# Altium schematic symbol library MCU_Cypress.SchLib: 36 symbols
Pins are listed as number, name and electrical type; pins without a type are passive.

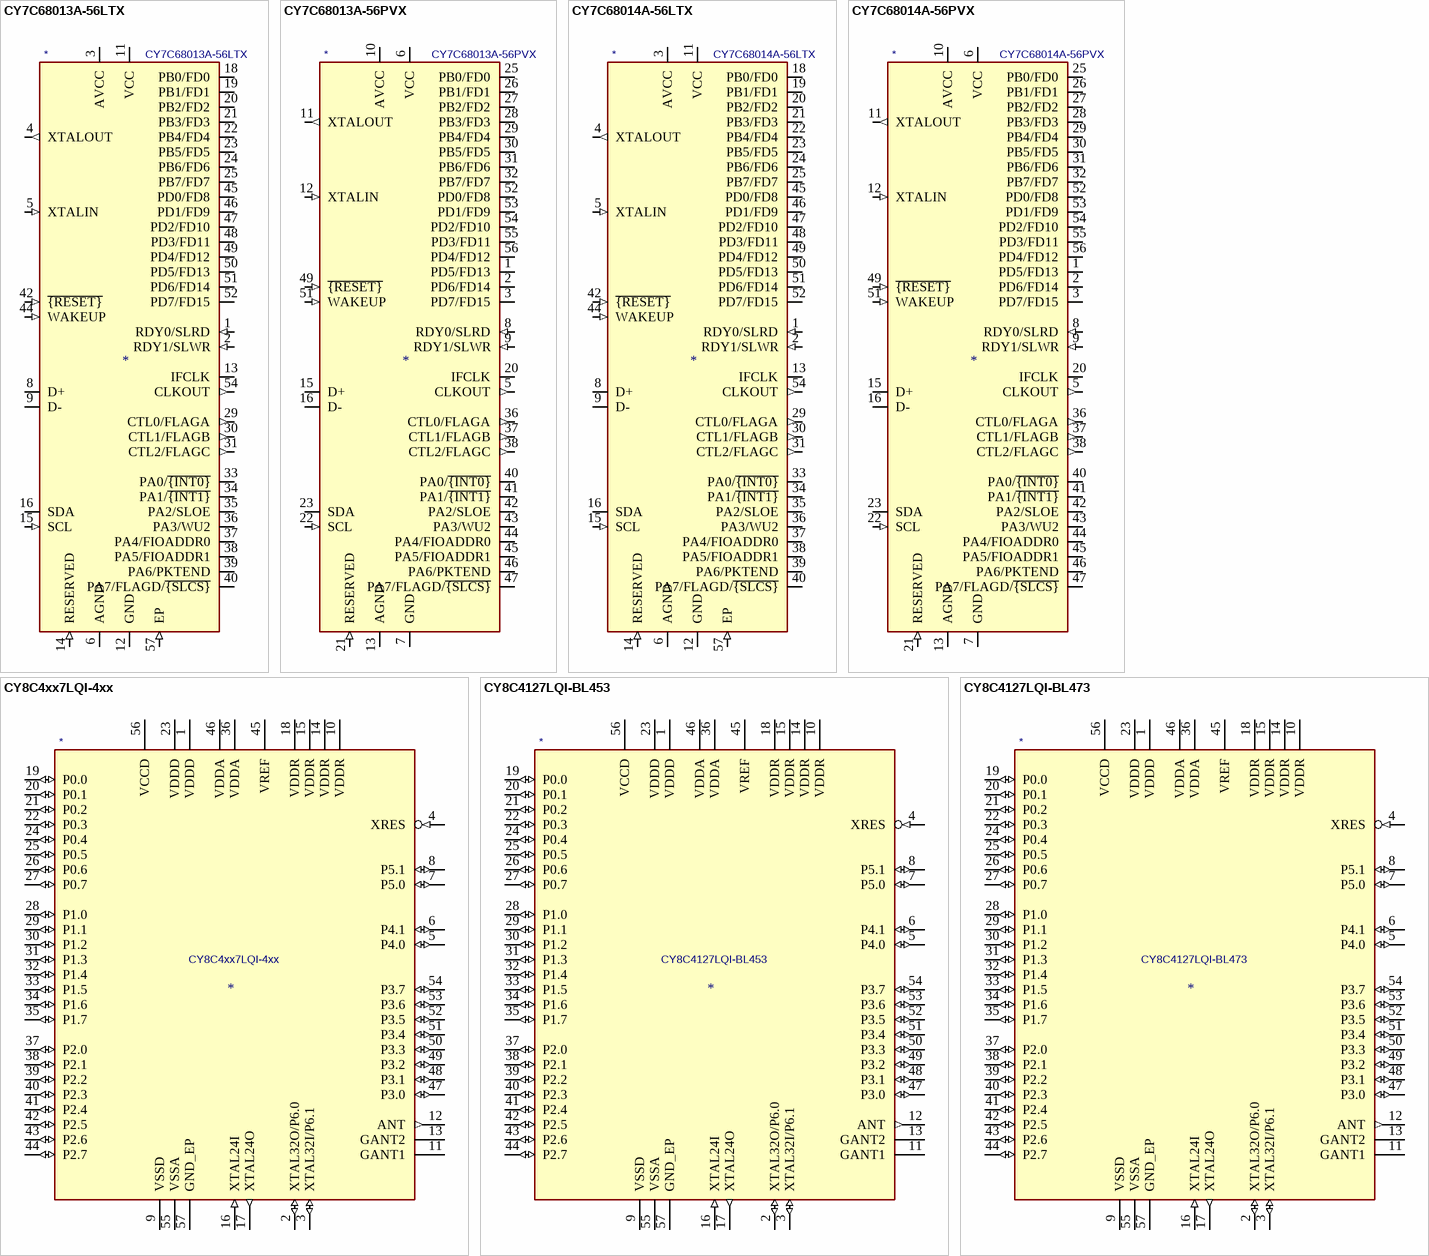
[diagram p0: symbols CY7C68013A-56LTX to CY8C4127LQI-BL473]

## CY7C68013A-56LTX
designator *  value CY7C68013A-56LTX
ki_keywords: FX2LP 8-bit USB MCU; ki_description: CYPRESS FX2LP USB Microcontroller, 48MHz 8051, 16KB RAM, USB 2.0, I2C, QFN-56; ki_fp_filters: QFN*1EP*8x8mm*P0.5mm*; Footprint: Package_DFN_QFN:QFN-56-1EP_8x8mm_P0.5mm_EP4.5x5.2mm_ThermalVias_TopTented; Supplier: http://www.cypress.com/file/138911/download
footprint QFN-56-1EP_8x8mm_P0.5mm_EP4.5x5.2mm_ThermalVias_TopTented
pins: 1 RDY0/SLRD (in), 2 RDY1/SLWR (in), 3 AVCC (power), 4 XTALOUT (out), 5 XTALIN (in), 6 AGND (power), 7 AVCC hidden, 8 D+ (io), 9 D- (io), 10 AGND hidden, 11 VCC (power), 12 GND (power), 13 IFCLK (io), 14 RESERVED (in), 15 SCL (in), 16 SDA (io), 17 VCC hidden, 18 PB0/FD0 (io), 19 PB1/FD1 (io), 20 PB2/FD2 (io), 21 PB3/FD3 (io), 22 PB4/FD4 (io), 23 PB5/FD5 (io), 24 PB6/FD6 (io), 25 PB7/FD7 (io), 26 GND hidden, 27 VCC hidden, 28 GND hidden, 29 CTL0/FLAGA (out), 30 CTL1/FLAGB (out), 31 CTL2/FLAGC (out), 32 VCC hidden, 33 PA0/~{{INT0}} (io), 34 PA1/~{{INT1}} (io), 35 PA2/SLOE (io), 36 PA3/WU2 (io), 37 PA4/FIOADDR0 (io), 38 PA5/FIOADDR1 (io), 39 PA6/PKTEND (io), 40 PA7/FLAGD/~{{SLCS}} (io), 41 GND hidden, 42 ~{{RESET}} (in), 43 VCC hidden, 44 WAKEUP (in), 45 PD0/FD8 (io), 46 PD1/FD9 (io), 47 PD2/FD10 (io), 48 PD3/FD11 (io), 49 PD4/FD12 (io), 50 PD5/FD13 (io), 51 PD6/FD14 (io), 52 PD7/FD15 (io), 53 GND hidden, 54 CLKOUT (out), 55 VCC hidden, 56 GND hidden, 57 EP (in)

## CY7C68013A-56PVX
designator *  value CY7C68013A-56PVX
ki_keywords: FX2LP 8-bit USB MCU; ki_description: CYPRESS FX2LP USB Microcontroller, 48MHz 8051, 16KB RAM, USB 2.0, I2C, SSOP-56; ki_fp_filters: SSOP*7.5x18.5mm*P0.635mm*; Footprint: Package_SO:SSOP-56_7.5x18.5mm_P0.635mm; Supplier: http://www.cypress.com/file/138911/download
footprint SSOP-56_7.5x18.5mm_P0.635mm
pins: 1 PD5/FD13 (io), 2 PD6/FD14 (io), 3 PD7/FD15 (io), 4 GND hidden, 5 CLKOUT (out), 6 VCC (power), 7 GND (power), 8 RDY0/SLRD (in), 9 RDY1/SLWR (in), 10 AVCC (power), 11 XTALOUT (out), 12 XTALIN (in), 13 AGND (power), 14 AVCC hidden, 15 D+ (io), 16 D- (io), 17 AGND hidden, 18 VCC hidden, 19 GND hidden, 20 IFCLK (io), 21 RESERVED (in), 22 SCL (in), 23 SDA (io), 24 VCC hidden, 25 PB0/FD0 (io), 26 PB1/FD1 (io), 27 PB2/FD2 (io), 28 PB3/FD3 (io), 29 PB4/FD4 (io), 30 PB5/FD5 (io), 31 PB6/FD6 (io), 32 PB7/FD7 (io), 33 GND hidden, 34 VCC hidden, 35 GND hidden, 36 CTL0/FLAGA (out), 37 CTL1/FLAGB (out), 38 CTL2/FLAGC (out), 39 VCC hidden, 40 PA0/~{{INT0}} (io), 41 PA1/~{{INT1}} (io), 42 PA2/SLOE (io), 43 PA3/WU2 (io), 44 PA4/FIOADDR0 (io), 45 PA5/FIOADDR1 (io), 46 PA6/PKTEND (io), 47 PA7/FLAGD/~{{SLCS}} (io), 48 GND hidden, 49 ~{{RESET}} (in), 50 VCC hidden, 51 WAKEUP (in), 52 PD0/FD8 (io), 53 PD1/FD9 (io), 54 PD2/FD10 (io), 55 PD3/FD11 (io), 56 PD4/FD12 (io)

## CY7C68014A-56LTX
designator *  value CY7C68014A-56LTX
ki_keywords: FX2LP 8-bit USB MCU; ki_description: CYPRESS FX2LP USB Microcontroller, 48MHz 8051, 16KB RAM, USB 2.0, I2C, QFN-56; ki_fp_filters: QFN*1EP*8x8mm*P0.5mm*; Footprint: Package_DFN_QFN:QFN-56-1EP_8x8mm_P0.5mm_EP4.5x5.2mm_ThermalVias_TopTented; Supplier: http://www.cypress.com/file/138911/download
footprint QFN-56-1EP_8x8mm_P0.5mm_EP4.5x5.2mm_ThermalVias_TopTented
pins: 1 RDY0/SLRD (in), 2 RDY1/SLWR (in), 3 AVCC (power), 4 XTALOUT (out), 5 XTALIN (in), 6 AGND (power), 7 AVCC hidden, 8 D+ (io), 9 D- (io), 10 AGND hidden, 11 VCC (power), 12 GND (power), 13 IFCLK (io), 14 RESERVED (in), 15 SCL (in), 16 SDA (io), 17 VCC hidden, 18 PB0/FD0 (io), 19 PB1/FD1 (io), 20 PB2/FD2 (io), 21 PB3/FD3 (io), 22 PB4/FD4 (io), 23 PB5/FD5 (io), 24 PB6/FD6 (io), 25 PB7/FD7 (io), 26 GND hidden, 27 VCC hidden, 28 GND hidden, 29 CTL0/FLAGA (out), 30 CTL1/FLAGB (out), 31 CTL2/FLAGC (out), 32 VCC hidden, 33 PA0/~{{INT0}} (io), 34 PA1/~{{INT1}} (io), 35 PA2/SLOE (io), 36 PA3/WU2 (io), 37 PA4/FIOADDR0 (io), 38 PA5/FIOADDR1 (io), 39 PA6/PKTEND (io), 40 PA7/FLAGD/~{{SLCS}} (io), 41 GND hidden, 42 ~{{RESET}} (in), 43 VCC hidden, 44 WAKEUP (in), 45 PD0/FD8 (io), 46 PD1/FD9 (io), 47 PD2/FD10 (io), 48 PD3/FD11 (io), 49 PD4/FD12 (io), 50 PD5/FD13 (io), 51 PD6/FD14 (io), 52 PD7/FD15 (io), 53 GND hidden, 54 CLKOUT (out), 55 VCC hidden, 56 GND hidden, 57 EP (in)

## CY7C68014A-56PVX
designator *  value CY7C68014A-56PVX
ki_keywords: FX2LP 8-bit USB MCU; ki_description: CYPRESS FX2LP USB Microcontroller, 48MHz 8051, 16KB RAM, USB 2.0, I2C, SSOP-56; ki_fp_filters: SSOP*7.5x18.5mm*P0.635mm*; Footprint: Package_SO:SSOP-56_7.5x18.5mm_P0.635mm; Supplier: http://www.cypress.com/file/138911/download
footprint SSOP-56_7.5x18.5mm_P0.635mm
pins: 1 PD5/FD13 (io), 2 PD6/FD14 (io), 3 PD7/FD15 (io), 4 GND hidden, 5 CLKOUT (out), 6 VCC (power), 7 GND (power), 8 RDY0/SLRD (in), 9 RDY1/SLWR (in), 10 AVCC (power), 11 XTALOUT (out), 12 XTALIN (in), 13 AGND (power), 14 AVCC hidden, 15 D+ (io), 16 D- (io), 17 AGND hidden, 18 VCC hidden, 19 GND hidden, 20 IFCLK (io), 21 RESERVED (in), 22 SCL (in), 23 SDA (io), 24 VCC hidden, 25 PB0/FD0 (io), 26 PB1/FD1 (io), 27 PB2/FD2 (io), 28 PB3/FD3 (io), 29 PB4/FD4 (io), 30 PB5/FD5 (io), 31 PB6/FD6 (io), 32 PB7/FD7 (io), 33 GND hidden, 34 VCC hidden, 35 GND hidden, 36 CTL0/FLAGA (out), 37 CTL1/FLAGB (out), 38 CTL2/FLAGC (out), 39 VCC hidden, 40 PA0/~{{INT0}} (io), 41 PA1/~{{INT1}} (io), 42 PA2/SLOE (io), 43 PA3/WU2 (io), 44 PA4/FIOADDR0 (io), 45 PA5/FIOADDR1 (io), 46 PA6/PKTEND (io), 47 PA7/FLAGD/~{{SLCS}} (io), 48 GND hidden, 49 ~{{RESET}} (in), 50 VCC hidden, 51 WAKEUP (in), 52 PD0/FD8 (io), 53 PD1/FD9 (io), 54 PD2/FD10 (io), 55 PD3/FD11 (io), 56 PD4/FD12 (io)

## CY8C4xx7LQI-4xx
designator *  value CY8C4xx7LQI-4xx
ki_keywords: CYPRESS PSOC BLE CY8 CY8C4 ARM CORTEX M0 BLUETOOTH QFN; ki_description: Programmable System-on-Chip With Bluetooth Low Energy, 24/48-MHz ARM® Cortex®-M0 , 56-QFN; ki_fp_filters: QFN*1EP*7x7mm*P0.4mm*; Footprint: Package_DFN_QFN:QFN-56-1EP_7x7mm_P0.4mm_EP5.6x5.6mm; Supplier: http://www.cypress.com/file/137466/download
footprint QFN-56-1EP_7x7mm_P0.4mm_EP5.6x5.6mm
pins: 1 VDDD (power), 2 XTAL32O/P6.0 (io), 3 XTAL32I/P6.1 (io), 4 XRES (in), 5 P4.0 (io), 6 P4.1 (io), 7 P5.0 (io), 8 P5.1 (io), 9 VSSD (power), 10 VDDR (power), 11 GANT1 (power), 12 ANT (out), 13 GANT2 (power), 14 VDDR (power), 15 VDDR (power), 16 XTAL24I (in), 17 XTAL24O (out), 18 VDDR (power), 19 P0.0 (io), 20 P0.1 (io), 21 P0.2 (io), 22 P0.3 (io), 23 VDDD (power), 24 P0.4 (io), 25 P0.5 (io), 26 P0.6 (io), 27 P0.7 (io), 28 P1.0 (io), 29 P1.1 (io), 30 P1.2 (io), 31 P1.3 (io), 32 P1.4 (io), 33 P1.5 (io), 34 P1.6 (io), 35 P1.7 (io), 36 VDDA (power), 37 P2.0 (io), 38 P2.1 (io), 39 P2.2 (io), 40 P2.3 (io), 41 P2.4 (io), 42 P2.5 (io), 43 P2.6 (io), 44 P2.7 (io), 45 VREF, 46 VDDA (power), 47 P3.0 (io), 48 P3.1 (io), 49 P3.2 (io), 50 P3.3 (io), 51 P3.4 (io), 52 P3.5 (io), 53 P3.6 (io), 54 P3.7 (io), 55 VSSA (power), 56 VCCD (power), 57 GND_EP (power)

## CY8C4127LQI-BL453
designator *  value CY8C4127LQI-BL453
ki_keywords: CYPRESS PSOC BLE CY8 CY8C4 ARM CORTEX M0 BLUETOOTH QFN; ki_description: 56-QFN, 24-MHz ARM® Cortex®-M0, 128KB Flash, 16kB SRAM, NO UDB, CAP-SENSE W/O GESTURE, NO LCD DRIVE; ki_fp_filters: QFN*1EP*7x7mm*P0.4mm*; Footprint: Package_DFN_QFN:QFN-56-1EP_7x7mm_P0.4mm_EP5.6x5.6mm; Supplier: http://www.cypress.com/file/137466/download
footprint QFN-56-1EP_7x7mm_P0.4mm_EP5.6x5.6mm
pins: 1 VDDD (power), 2 XTAL32O/P6.0 (io), 3 XTAL32I/P6.1 (io), 4 XRES (in), 5 P4.0 (io), 6 P4.1 (io), 7 P5.0 (io), 8 P5.1 (io), 9 VSSD (power), 10 VDDR (power), 11 GANT1 (power), 12 ANT (out), 13 GANT2 (power), 14 VDDR (power), 15 VDDR (power), 16 XTAL24I (in), 17 XTAL24O (out), 18 VDDR (power), 19 P0.0 (io), 20 P0.1 (io), 21 P0.2 (io), 22 P0.3 (io), 23 VDDD (power), 24 P0.4 (io), 25 P0.5 (io), 26 P0.6 (io), 27 P0.7 (io), 28 P1.0 (io), 29 P1.1 (io), 30 P1.2 (io), 31 P1.3 (io), 32 P1.4 (io), 33 P1.5 (io), 34 P1.6 (io), 35 P1.7 (io), 36 VDDA (power), 37 P2.0 (io), 38 P2.1 (io), 39 P2.2 (io), 40 P2.3 (io), 41 P2.4 (io), 42 P2.5 (io), 43 P2.6 (io), 44 P2.7 (io), 45 VREF, 46 VDDA (power), 47 P3.0 (io), 48 P3.1 (io), 49 P3.2 (io), 50 P3.3 (io), 51 P3.4 (io), 52 P3.5 (io), 53 P3.6 (io), 54 P3.7 (io), 55 VSSA (power), 56 VCCD (power), 57 GND_EP (power)

## CY8C4127LQI-BL473
designator *  value CY8C4127LQI-BL473
ki_keywords: CYPRESS PSOC BLE CY8 CY8C4 ARM CORTEX M0 BLUETOOTH QFN; ki_description: 56-QFN, 24-MHz ARM® Cortex®-M0, 128KB Flash, 16kB SRAM, NO UDB, NO CAP-SENSE, NO LCD DRIVE; ki_fp_filters: QFN*1EP*7x7mm*P0.4mm*; Footprint: Package_DFN_QFN:QFN-56-1EP_7x7mm_P0.4mm_EP5.6x5.6mm; Supplier: http://www.cypress.com/file/137466/download
footprint QFN-56-1EP_7x7mm_P0.4mm_EP5.6x5.6mm
pins: 1 VDDD (power), 2 XTAL32O/P6.0 (io), 3 XTAL32I/P6.1 (io), 4 XRES (in), 5 P4.0 (io), 6 P4.1 (io), 7 P5.0 (io), 8 P5.1 (io), 9 VSSD (power), 10 VDDR (power), 11 GANT1 (power), 12 ANT (out), 13 GANT2 (power), 14 VDDR (power), 15 VDDR (power), 16 XTAL24I (in), 17 XTAL24O (out), 18 VDDR (power), 19 P0.0 (io), 20 P0.1 (io), 21 P0.2 (io), 22 P0.3 (io), 23 VDDD (power), 24 P0.4 (io), 25 P0.5 (io), 26 P0.6 (io), 27 P0.7 (io), 28 P1.0 (io), 29 P1.1 (io), 30 P1.2 (io), 31 P1.3 (io), 32 P1.4 (io), 33 P1.5 (io), 34 P1.6 (io), 35 P1.7 (io), 36 VDDA (power), 37 P2.0 (io), 38 P2.1 (io), 39 P2.2 (io), 40 P2.3 (io), 41 P2.4 (io), 42 P2.5 (io), 43 P2.6 (io), 44 P2.7 (io), 45 VREF, 46 VDDA (power), 47 P3.0 (io), 48 P3.1 (io), 49 P3.2 (io), 50 P3.3 (io), 51 P3.4 (io), 52 P3.5 (io), 53 P3.6 (io), 54 P3.7 (io), 55 VSSA (power), 56 VCCD (power), 57 GND_EP (power)

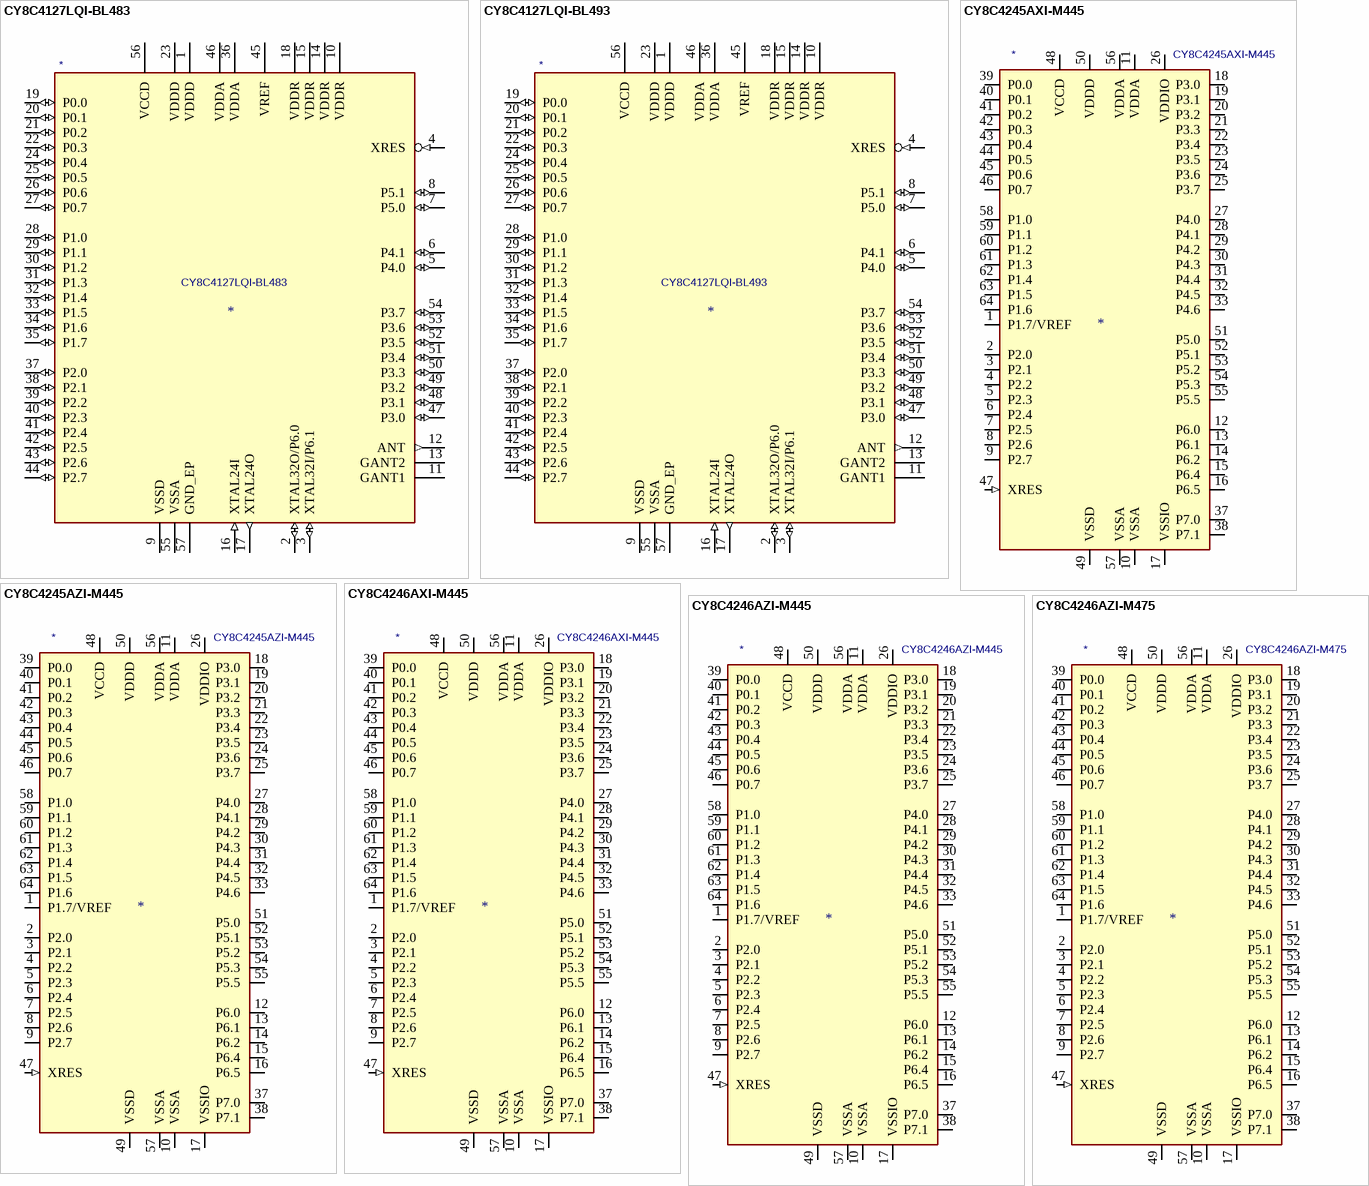
[diagram p1: symbols CY8C4127LQI-BL483 to CY8C4246AZI-M475]

## CY8C4127LQI-BL483
designator *  value CY8C4127LQI-BL483
ki_keywords: CYPRESS PSOC BLE CY8 CY8C4 ARM CORTEX M0 BLUETOOTH QFN; ki_description: 56-QFN, 24-MHz ARM® Cortex®-M0, 128KB Flash, 16kB SRAM, NO UDB, CAP-SENSE W/O GESTURE, LCD DRIVE; ki_fp_filters: QFN*1EP*7x7mm*P0.4mm*; Footprint: Package_DFN_QFN:QFN-56-1EP_7x7mm_P0.4mm_EP5.6x5.6mm; Supplier: http://www.cypress.com/file/137466/download
footprint QFN-56-1EP_7x7mm_P0.4mm_EP5.6x5.6mm
pins: 1 VDDD (power), 2 XTAL32O/P6.0 (io), 3 XTAL32I/P6.1 (io), 4 XRES (in), 5 P4.0 (io), 6 P4.1 (io), 7 P5.0 (io), 8 P5.1 (io), 9 VSSD (power), 10 VDDR (power), 11 GANT1 (power), 12 ANT (out), 13 GANT2 (power), 14 VDDR (power), 15 VDDR (power), 16 XTAL24I (in), 17 XTAL24O (out), 18 VDDR (power), 19 P0.0 (io), 20 P0.1 (io), 21 P0.2 (io), 22 P0.3 (io), 23 VDDD (power), 24 P0.4 (io), 25 P0.5 (io), 26 P0.6 (io), 27 P0.7 (io), 28 P1.0 (io), 29 P1.1 (io), 30 P1.2 (io), 31 P1.3 (io), 32 P1.4 (io), 33 P1.5 (io), 34 P1.6 (io), 35 P1.7 (io), 36 VDDA (power), 37 P2.0 (io), 38 P2.1 (io), 39 P2.2 (io), 40 P2.3 (io), 41 P2.4 (io), 42 P2.5 (io), 43 P2.6 (io), 44 P2.7 (io), 45 VREF, 46 VDDA (power), 47 P3.0 (io), 48 P3.1 (io), 49 P3.2 (io), 50 P3.3 (io), 51 P3.4 (io), 52 P3.5 (io), 53 P3.6 (io), 54 P3.7 (io), 55 VSSA (power), 56 VCCD (power), 57 GND_EP (power)

## CY8C4127LQI-BL493
designator *  value CY8C4127LQI-BL493
ki_keywords: CYPRESS PSOC BLE CY8 CY8C4 ARM CORTEX M0 BLUETOOTH QFN; ki_description: 56-QFN, 24-MHz ARM® Cortex®-M0, 128KB Flash, 16kB SRAM, NO UDB, CAP-SENSE W/ GESTURE, LCD DRIVE; ki_fp_filters: QFN*1EP*7x7mm*P0.4mm*; Footprint: Package_DFN_QFN:QFN-56-1EP_7x7mm_P0.4mm_EP5.6x5.6mm; Supplier: http://www.cypress.com/file/137466/download
footprint QFN-56-1EP_7x7mm_P0.4mm_EP5.6x5.6mm
pins: 1 VDDD (power), 2 XTAL32O/P6.0 (io), 3 XTAL32I/P6.1 (io), 4 XRES (in), 5 P4.0 (io), 6 P4.1 (io), 7 P5.0 (io), 8 P5.1 (io), 9 VSSD (power), 10 VDDR (power), 11 GANT1 (power), 12 ANT (out), 13 GANT2 (power), 14 VDDR (power), 15 VDDR (power), 16 XTAL24I (in), 17 XTAL24O (out), 18 VDDR (power), 19 P0.0 (io), 20 P0.1 (io), 21 P0.2 (io), 22 P0.3 (io), 23 VDDD (power), 24 P0.4 (io), 25 P0.5 (io), 26 P0.6 (io), 27 P0.7 (io), 28 P1.0 (io), 29 P1.1 (io), 30 P1.2 (io), 31 P1.3 (io), 32 P1.4 (io), 33 P1.5 (io), 34 P1.6 (io), 35 P1.7 (io), 36 VDDA (power), 37 P2.0 (io), 38 P2.1 (io), 39 P2.2 (io), 40 P2.3 (io), 41 P2.4 (io), 42 P2.5 (io), 43 P2.6 (io), 44 P2.7 (io), 45 VREF, 46 VDDA (power), 47 P3.0 (io), 48 P3.1 (io), 49 P3.2 (io), 50 P3.3 (io), 51 P3.4 (io), 52 P3.5 (io), 53 P3.6 (io), 54 P3.7 (io), 55 VSSA (power), 56 VCCD (power), 57 GND_EP (power)

## CY8C4245AXI-M445
designator *  value CY8C4245AXI-M445
ki_keywords: Cypress Microcontroller Arm CapSense LCD; ki_description: PSoC 4200M series, 48MHz CPU, 32KB Flash, 4KB SRAM, 64-TQFP; ki_fp_filters: TQFP*14x14mm*P0.8mm*; Footprint: Package_QFP:TQFP-64_14x14mm_P0.8mm; Supplier: https://www.cypress.com/file/139956/download
footprint TQFP-64_14x14mm_P0.8mm
pins: 1 P1.7/VREF (io), 2 P2.0 (io), 3 P2.1 (io), 4 P2.2 (io), 5 P2.3 (io), 6 P2.4 (io), 7 P2.5 (io), 8 P2.6 (io), 9 P2.7 (io), 10 VSSA (power), 11 VDDA (power), 12 P6.0 (io), 13 P6.1 (io), 14 P6.2 (io), 15 P6.4 (io), 16 P6.5 (io), 17 VSSIO (power), 18 P3.0 (io), 19 P3.1 (io), 20 P3.2 (io), 21 P3.3 (io), 22 P3.4 (io), 23 P3.5 (io), 24 P3.6 (io), 25 P3.7 (io), 26 VDDIO (power), 27 P4.0 (io), 28 P4.1 (io), 29 P4.2 (io), 30 P4.3 (io), 31 P4.4 (io), 32 P4.5 (io), 33 P4.6 (io), 37 P7.0 (io), 38 P7.1 (io), 39 P0.0 (io), 40 P0.1 (io), 41 P0.2 (io), 42 P0.3 (io), 43 P0.4 (io), 44 P0.5 (io), 45 P0.6 (io), 46 P0.7 (io), 47 XRES (in), 48 VCCD (power), 49 VSSD (power), 50 VDDD (power), 51 P5.0 (io), 52 P5.1 (io), 53 P5.2 (io), 54 P5.3 (io), 55 P5.5 (io), 56 VDDA (power), 57 VSSA (power), 58 P1.0 (io), 59 P1.1 (io), 60 P1.2 (io), 61 P1.3 (io), 62 P1.4 (io), 63 P1.5 (io), 64 P1.6 (io)

## CY8C4245AZI-M445
designator *  value CY8C4245AZI-M445
ki_keywords: Cypress Microcontroller Arm CapSense LCD; ki_description: PSoC 4200M series, 48MHz CPU, 32KB Flash, 4KB SRAM, 64-TQFP; ki_fp_filters: TQFP*10x10mm*P0.5mm*; Footprint: Package_QFP:TQFP-64_10x10mm_P0.5mm; Supplier: https://www.cypress.com/file/139956/download
footprint TQFP-64_10x10mm_P0.5mm
pins: 1 P1.7/VREF (io), 2 P2.0 (io), 3 P2.1 (io), 4 P2.2 (io), 5 P2.3 (io), 6 P2.4 (io), 7 P2.5 (io), 8 P2.6 (io), 9 P2.7 (io), 10 VSSA (power), 11 VDDA (power), 12 P6.0 (io), 13 P6.1 (io), 14 P6.2 (io), 15 P6.4 (io), 16 P6.5 (io), 17 VSSIO (power), 18 P3.0 (io), 19 P3.1 (io), 20 P3.2 (io), 21 P3.3 (io), 22 P3.4 (io), 23 P3.5 (io), 24 P3.6 (io), 25 P3.7 (io), 26 VDDIO (power), 27 P4.0 (io), 28 P4.1 (io), 29 P4.2 (io), 30 P4.3 (io), 31 P4.4 (io), 32 P4.5 (io), 33 P4.6 (io), 37 P7.0 (io), 38 P7.1 (io), 39 P0.0 (io), 40 P0.1 (io), 41 P0.2 (io), 42 P0.3 (io), 43 P0.4 (io), 44 P0.5 (io), 45 P0.6 (io), 46 P0.7 (io), 47 XRES (in), 48 VCCD (power), 49 VSSD (power), 50 VDDD (power), 51 P5.0 (io), 52 P5.1 (io), 53 P5.2 (io), 54 P5.3 (io), 55 P5.5 (io), 56 VDDA (power), 57 VSSA (power), 58 P1.0 (io), 59 P1.1 (io), 60 P1.2 (io), 61 P1.3 (io), 62 P1.4 (io), 63 P1.5 (io), 64 P1.6 (io)

## CY8C4246AXI-M445
designator *  value CY8C4246AXI-M445
ki_keywords: Cypress Microcontroller Arm CapSense LCD; ki_description: PSoC 4200M series, 48MHz CPU, 64KB Flash, 8KB SRAM, 64-TQFP; ki_fp_filters: TQFP*14x14mm*P0.8mm*; Footprint: Package_QFP:TQFP-64_14x14mm_P0.8mm; Supplier: https://www.cypress.com/file/139956/download
footprint TQFP-64_14x14mm_P0.8mm
pins: 1 P1.7/VREF (io), 2 P2.0 (io), 3 P2.1 (io), 4 P2.2 (io), 5 P2.3 (io), 6 P2.4 (io), 7 P2.5 (io), 8 P2.6 (io), 9 P2.7 (io), 10 VSSA (power), 11 VDDA (power), 12 P6.0 (io), 13 P6.1 (io), 14 P6.2 (io), 15 P6.4 (io), 16 P6.5 (io), 17 VSSIO (power), 18 P3.0 (io), 19 P3.1 (io), 20 P3.2 (io), 21 P3.3 (io), 22 P3.4 (io), 23 P3.5 (io), 24 P3.6 (io), 25 P3.7 (io), 26 VDDIO (power), 27 P4.0 (io), 28 P4.1 (io), 29 P4.2 (io), 30 P4.3 (io), 31 P4.4 (io), 32 P4.5 (io), 33 P4.6 (io), 37 P7.0 (io), 38 P7.1 (io), 39 P0.0 (io), 40 P0.1 (io), 41 P0.2 (io), 42 P0.3 (io), 43 P0.4 (io), 44 P0.5 (io), 45 P0.6 (io), 46 P0.7 (io), 47 XRES (in), 48 VCCD (power), 49 VSSD (power), 50 VDDD (power), 51 P5.0 (io), 52 P5.1 (io), 53 P5.2 (io), 54 P5.3 (io), 55 P5.5 (io), 56 VDDA (power), 57 VSSA (power), 58 P1.0 (io), 59 P1.1 (io), 60 P1.2 (io), 61 P1.3 (io), 62 P1.4 (io), 63 P1.5 (io), 64 P1.6 (io)

## CY8C4246AZI-M445
designator *  value CY8C4246AZI-M445
ki_keywords: Cypress Microcontroller Arm CapSense LCD; ki_description: PSoC 4200M series, 48MHz CPU, 64KB Flash, 8KB SRAM, 64-TQFP; ki_fp_filters: TQFP*10x10mm*P0.5mm*; Footprint: Package_QFP:TQFP-64_10x10mm_P0.5mm; Supplier: https://www.cypress.com/file/139956/download
footprint TQFP-64_10x10mm_P0.5mm
pins: 1 P1.7/VREF (io), 2 P2.0 (io), 3 P2.1 (io), 4 P2.2 (io), 5 P2.3 (io), 6 P2.4 (io), 7 P2.5 (io), 8 P2.6 (io), 9 P2.7 (io), 10 VSSA (power), 11 VDDA (power), 12 P6.0 (io), 13 P6.1 (io), 14 P6.2 (io), 15 P6.4 (io), 16 P6.5 (io), 17 VSSIO (power), 18 P3.0 (io), 19 P3.1 (io), 20 P3.2 (io), 21 P3.3 (io), 22 P3.4 (io), 23 P3.5 (io), 24 P3.6 (io), 25 P3.7 (io), 26 VDDIO (power), 27 P4.0 (io), 28 P4.1 (io), 29 P4.2 (io), 30 P4.3 (io), 31 P4.4 (io), 32 P4.5 (io), 33 P4.6 (io), 37 P7.0 (io), 38 P7.1 (io), 39 P0.0 (io), 40 P0.1 (io), 41 P0.2 (io), 42 P0.3 (io), 43 P0.4 (io), 44 P0.5 (io), 45 P0.6 (io), 46 P0.7 (io), 47 XRES (in), 48 VCCD (power), 49 VSSD (power), 50 VDDD (power), 51 P5.0 (io), 52 P5.1 (io), 53 P5.2 (io), 54 P5.3 (io), 55 P5.5 (io), 56 VDDA (power), 57 VSSA (power), 58 P1.0 (io), 59 P1.1 (io), 60 P1.2 (io), 61 P1.3 (io), 62 P1.4 (io), 63 P1.5 (io), 64 P1.6 (io)

## CY8C4246AZI-M475
designator *  value CY8C4246AZI-M475
ki_keywords: Cypress Microcontroller Arm IDAC; ki_description: PSoC 4200M series, 48MHz CPU, 64KB Flash, 8KB SRAM, 64-TQFP; ki_fp_filters: TQFP*10x10mm*P0.5mm*; Footprint: Package_QFP:TQFP-64_10x10mm_P0.5mm; Supplier: https://www.cypress.com/file/139956/download
footprint TQFP-64_10x10mm_P0.5mm
pins: 1 P1.7/VREF (io), 2 P2.0 (io), 3 P2.1 (io), 4 P2.2 (io), 5 P2.3 (io), 6 P2.4 (io), 7 P2.5 (io), 8 P2.6 (io), 9 P2.7 (io), 10 VSSA (power), 11 VDDA (power), 12 P6.0 (io), 13 P6.1 (io), 14 P6.2 (io), 15 P6.4 (io), 16 P6.5 (io), 17 VSSIO (power), 18 P3.0 (io), 19 P3.1 (io), 20 P3.2 (io), 21 P3.3 (io), 22 P3.4 (io), 23 P3.5 (io), 24 P3.6 (io), 25 P3.7 (io), 26 VDDIO (power), 27 P4.0 (io), 28 P4.1 (io), 29 P4.2 (io), 30 P4.3 (io), 31 P4.4 (io), 32 P4.5 (io), 33 P4.6 (io), 37 P7.0 (io), 38 P7.1 (io), 39 P0.0 (io), 40 P0.1 (io), 41 P0.2 (io), 42 P0.3 (io), 43 P0.4 (io), 44 P0.5 (io), 45 P0.6 (io), 46 P0.7 (io), 47 XRES (in), 48 VCCD (power), 49 VSSD (power), 50 VDDD (power), 51 P5.0 (io), 52 P5.1 (io), 53 P5.2 (io), 54 P5.3 (io), 55 P5.5 (io), 56 VDDA (power), 57 VSSA (power), 58 P1.0 (io), 59 P1.1 (io), 60 P1.2 (io), 61 P1.3 (io), 62 P1.4 (io), 63 P1.5 (io), 64 P1.6 (io)

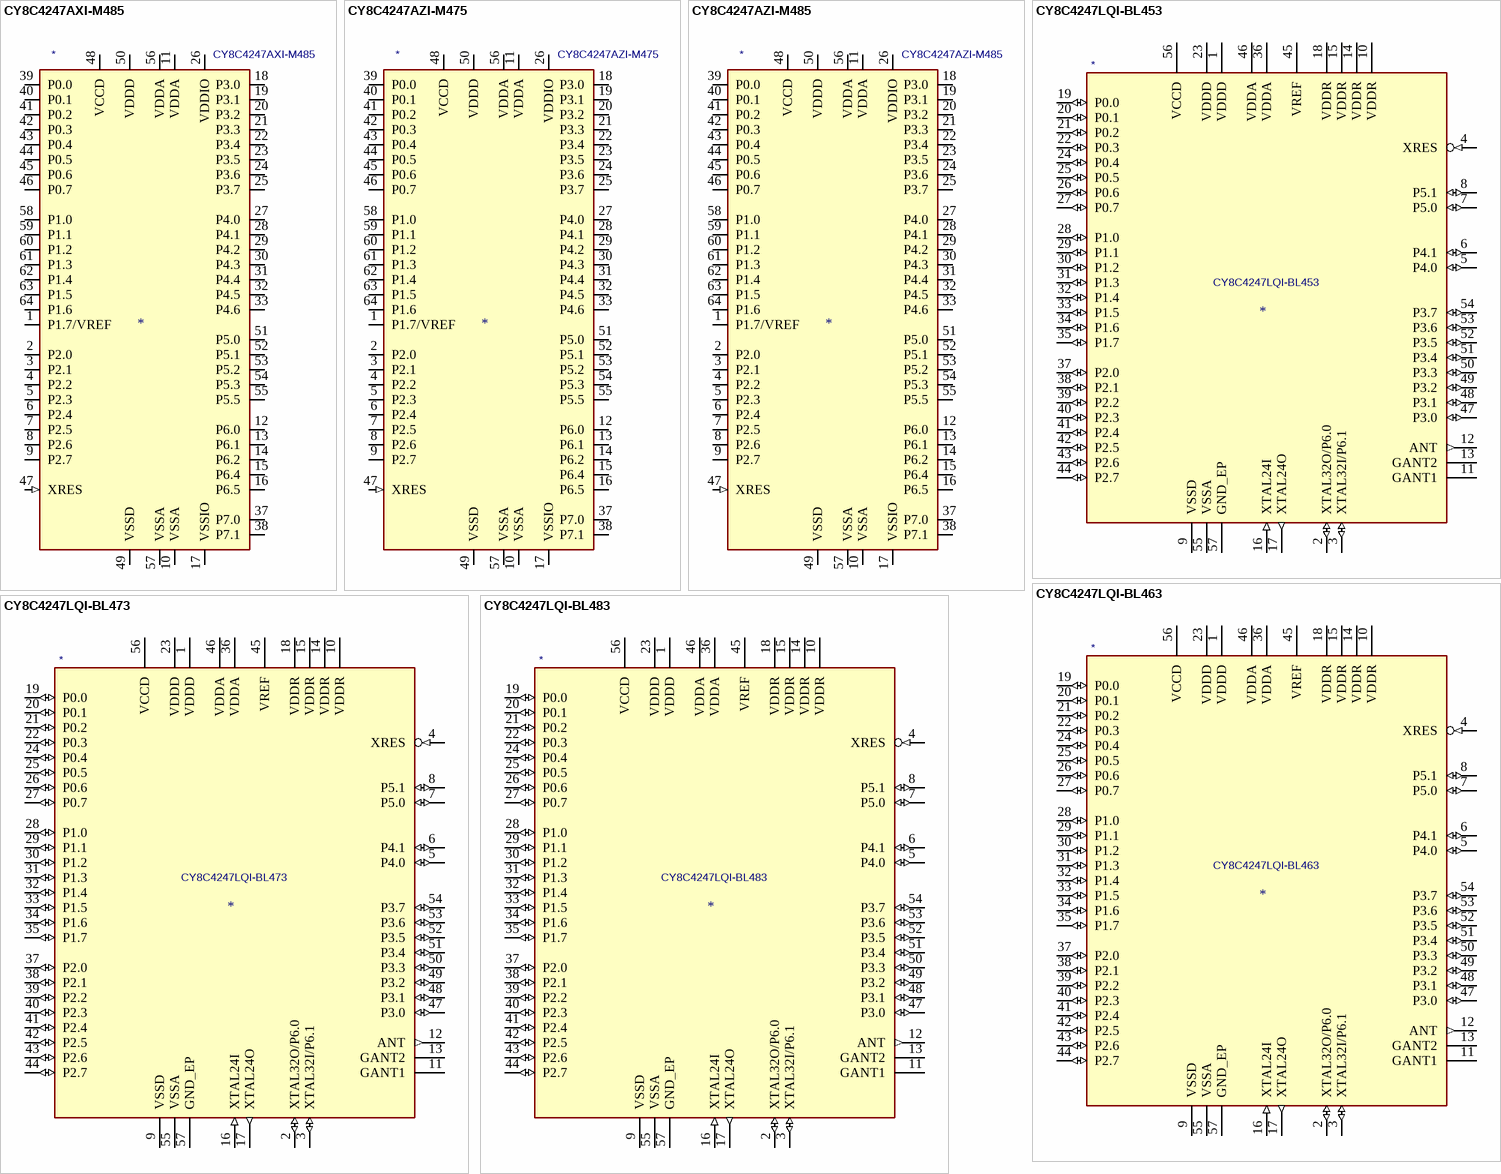
[diagram p2: symbols CY8C4247AXI-M485 to CY8C4247LQI-BL483]

## CY8C4247AXI-M485
designator *  value CY8C4247AXI-M485
ki_keywords: Cypress Microcontroller Arm CapSense IDAC LCD CAN; ki_description: PSoC 4200M series, 48MHz CPU, 128KB Flash, 16KB SRAM, 64-TQFP; ki_fp_filters: TQFP*14x14mm*P0.8mm*; Footprint: Package_QFP:TQFP-64_14x14mm_P0.8mm; Supplier: https://www.cypress.com/file/139956/download
footprint TQFP-64_14x14mm_P0.8mm
pins: 1 P1.7/VREF (io), 2 P2.0 (io), 3 P2.1 (io), 4 P2.2 (io), 5 P2.3 (io), 6 P2.4 (io), 7 P2.5 (io), 8 P2.6 (io), 9 P2.7 (io), 10 VSSA (power), 11 VDDA (power), 12 P6.0 (io), 13 P6.1 (io), 14 P6.2 (io), 15 P6.4 (io), 16 P6.5 (io), 17 VSSIO (power), 18 P3.0 (io), 19 P3.1 (io), 20 P3.2 (io), 21 P3.3 (io), 22 P3.4 (io), 23 P3.5 (io), 24 P3.6 (io), 25 P3.7 (io), 26 VDDIO (power), 27 P4.0 (io), 28 P4.1 (io), 29 P4.2 (io), 30 P4.3 (io), 31 P4.4 (io), 32 P4.5 (io), 33 P4.6 (io), 37 P7.0 (io), 38 P7.1 (io), 39 P0.0 (io), 40 P0.1 (io), 41 P0.2 (io), 42 P0.3 (io), 43 P0.4 (io), 44 P0.5 (io), 45 P0.6 (io), 46 P0.7 (io), 47 XRES (in), 48 VCCD (power), 49 VSSD (power), 50 VDDD (power), 51 P5.0 (io), 52 P5.1 (io), 53 P5.2 (io), 54 P5.3 (io), 55 P5.5 (io), 56 VDDA (power), 57 VSSA (power), 58 P1.0 (io), 59 P1.1 (io), 60 P1.2 (io), 61 P1.3 (io), 62 P1.4 (io), 63 P1.5 (io), 64 P1.6 (io)

## CY8C4247AZI-M475
designator *  value CY8C4247AZI-M475
ki_keywords: Cypress Microcontroller Arm IDAC; ki_description: PSoC 4200M series, 48MHz CPU, 128KB Flash, 16KB SRAM, 64-TQFP; ki_fp_filters: TQFP*10x10mm*P0.5mm*; Footprint: Package_QFP:TQFP-64_10x10mm_P0.5mm; Supplier: https://www.cypress.com/file/139956/download
footprint TQFP-64_10x10mm_P0.5mm
pins: 1 P1.7/VREF (io), 2 P2.0 (io), 3 P2.1 (io), 4 P2.2 (io), 5 P2.3 (io), 6 P2.4 (io), 7 P2.5 (io), 8 P2.6 (io), 9 P2.7 (io), 10 VSSA (power), 11 VDDA (power), 12 P6.0 (io), 13 P6.1 (io), 14 P6.2 (io), 15 P6.4 (io), 16 P6.5 (io), 17 VSSIO (power), 18 P3.0 (io), 19 P3.1 (io), 20 P3.2 (io), 21 P3.3 (io), 22 P3.4 (io), 23 P3.5 (io), 24 P3.6 (io), 25 P3.7 (io), 26 VDDIO (power), 27 P4.0 (io), 28 P4.1 (io), 29 P4.2 (io), 30 P4.3 (io), 31 P4.4 (io), 32 P4.5 (io), 33 P4.6 (io), 37 P7.0 (io), 38 P7.1 (io), 39 P0.0 (io), 40 P0.1 (io), 41 P0.2 (io), 42 P0.3 (io), 43 P0.4 (io), 44 P0.5 (io), 45 P0.6 (io), 46 P0.7 (io), 47 XRES (in), 48 VCCD (power), 49 VSSD (power), 50 VDDD (power), 51 P5.0 (io), 52 P5.1 (io), 53 P5.2 (io), 54 P5.3 (io), 55 P5.5 (io), 56 VDDA (power), 57 VSSA (power), 58 P1.0 (io), 59 P1.1 (io), 60 P1.2 (io), 61 P1.3 (io), 62 P1.4 (io), 63 P1.5 (io), 64 P1.6 (io)

## CY8C4247AZI-M485
designator *  value CY8C4247AZI-M485
ki_keywords: Cypress Microcontroller Arm CapSense IDAC LCD CAN; ki_description: PSoC 4200M series, 48MHz CPU, 128KB Flash, 16KB SRAM, 64-TQFP; ki_fp_filters: TQFP*10x10mm*P0.5mm*; Footprint: Package_QFP:TQFP-64_10x10mm_P0.5mm; Supplier: https://www.cypress.com/file/139956/download
footprint TQFP-64_10x10mm_P0.5mm
pins: 1 P1.7/VREF (io), 2 P2.0 (io), 3 P2.1 (io), 4 P2.2 (io), 5 P2.3 (io), 6 P2.4 (io), 7 P2.5 (io), 8 P2.6 (io), 9 P2.7 (io), 10 VSSA (power), 11 VDDA (power), 12 P6.0 (io), 13 P6.1 (io), 14 P6.2 (io), 15 P6.4 (io), 16 P6.5 (io), 17 VSSIO (power), 18 P3.0 (io), 19 P3.1 (io), 20 P3.2 (io), 21 P3.3 (io), 22 P3.4 (io), 23 P3.5 (io), 24 P3.6 (io), 25 P3.7 (io), 26 VDDIO (power), 27 P4.0 (io), 28 P4.1 (io), 29 P4.2 (io), 30 P4.3 (io), 31 P4.4 (io), 32 P4.5 (io), 33 P4.6 (io), 37 P7.0 (io), 38 P7.1 (io), 39 P0.0 (io), 40 P0.1 (io), 41 P0.2 (io), 42 P0.3 (io), 43 P0.4 (io), 44 P0.5 (io), 45 P0.6 (io), 46 P0.7 (io), 47 XRES (in), 48 VCCD (power), 49 VSSD (power), 50 VDDD (power), 51 P5.0 (io), 52 P5.1 (io), 53 P5.2 (io), 54 P5.3 (io), 55 P5.5 (io), 56 VDDA (power), 57 VSSA (power), 58 P1.0 (io), 59 P1.1 (io), 60 P1.2 (io), 61 P1.3 (io), 62 P1.4 (io), 63 P1.5 (io), 64 P1.6 (io)

## CY8C4247LQI-BL453
designator *  value CY8C4247LQI-BL453
ki_keywords: CYPRESS PSOC BLE CY8 CY8C4 ARM CORTEX M0 BLUETOOTH QFN; ki_description: 56-QFN, 48-MHz ARM® Cortex®-M0, 128KB Flash, 16kB SRAM, 4 UDB, CAP-SENSE W/O GESTURE, NO LCD DRIVE; ki_fp_filters: QFN*1EP*7x7mm*P0.4mm*; Footprint: Package_DFN_QFN:QFN-56-1EP_7x7mm_P0.4mm_EP5.6x5.6mm; Supplier: http://www.cypress.com/file/137466/download
footprint QFN-56-1EP_7x7mm_P0.4mm_EP5.6x5.6mm
pins: 1 VDDD (power), 2 XTAL32O/P6.0 (io), 3 XTAL32I/P6.1 (io), 4 XRES (in), 5 P4.0 (io), 6 P4.1 (io), 7 P5.0 (io), 8 P5.1 (io), 9 VSSD (power), 10 VDDR (power), 11 GANT1 (power), 12 ANT (out), 13 GANT2 (power), 14 VDDR (power), 15 VDDR (power), 16 XTAL24I (in), 17 XTAL24O (out), 18 VDDR (power), 19 P0.0 (io), 20 P0.1 (io), 21 P0.2 (io), 22 P0.3 (io), 23 VDDD (power), 24 P0.4 (io), 25 P0.5 (io), 26 P0.6 (io), 27 P0.7 (io), 28 P1.0 (io), 29 P1.1 (io), 30 P1.2 (io), 31 P1.3 (io), 32 P1.4 (io), 33 P1.5 (io), 34 P1.6 (io), 35 P1.7 (io), 36 VDDA (power), 37 P2.0 (io), 38 P2.1 (io), 39 P2.2 (io), 40 P2.3 (io), 41 P2.4 (io), 42 P2.5 (io), 43 P2.6 (io), 44 P2.7 (io), 45 VREF, 46 VDDA (power), 47 P3.0 (io), 48 P3.1 (io), 49 P3.2 (io), 50 P3.3 (io), 51 P3.4 (io), 52 P3.5 (io), 53 P3.6 (io), 54 P3.7 (io), 55 VSSA (power), 56 VCCD (power), 57 GND_EP (power)

## CY8C4247LQI-BL463
designator *  value CY8C4247LQI-BL463
ki_keywords: CYPRESS PSOC BLE CY8 CY8C4 ARM CORTEX M0 BLUETOOTH QFN; ki_description: 56-QFN, 48-MHz ARM® Cortex®-M0, 128KB Flash, 16kB SRAM, 4 UDB, NO CAP-SENSE, LCD DRIVE; ki_fp_filters: QFN*1EP*7x7mm*P0.4mm*; Footprint: Package_DFN_QFN:QFN-56-1EP_7x7mm_P0.4mm_EP5.6x5.6mm; Supplier: http://www.cypress.com/file/137466/download
footprint QFN-56-1EP_7x7mm_P0.4mm_EP5.6x5.6mm
pins: 1 VDDD (power), 2 XTAL32O/P6.0 (io), 3 XTAL32I/P6.1 (io), 4 XRES (in), 5 P4.0 (io), 6 P4.1 (io), 7 P5.0 (io), 8 P5.1 (io), 9 VSSD (power), 10 VDDR (power), 11 GANT1 (power), 12 ANT (out), 13 GANT2 (power), 14 VDDR (power), 15 VDDR (power), 16 XTAL24I (in), 17 XTAL24O (out), 18 VDDR (power), 19 P0.0 (io), 20 P0.1 (io), 21 P0.2 (io), 22 P0.3 (io), 23 VDDD (power), 24 P0.4 (io), 25 P0.5 (io), 26 P0.6 (io), 27 P0.7 (io), 28 P1.0 (io), 29 P1.1 (io), 30 P1.2 (io), 31 P1.3 (io), 32 P1.4 (io), 33 P1.5 (io), 34 P1.6 (io), 35 P1.7 (io), 36 VDDA (power), 37 P2.0 (io), 38 P2.1 (io), 39 P2.2 (io), 40 P2.3 (io), 41 P2.4 (io), 42 P2.5 (io), 43 P2.6 (io), 44 P2.7 (io), 45 VREF, 46 VDDA (power), 47 P3.0 (io), 48 P3.1 (io), 49 P3.2 (io), 50 P3.3 (io), 51 P3.4 (io), 52 P3.5 (io), 53 P3.6 (io), 54 P3.7 (io), 55 VSSA (power), 56 VCCD (power), 57 GND_EP (power)

## CY8C4247LQI-BL473
designator *  value CY8C4247LQI-BL473
ki_keywords: CYPRESS PSOC BLE CY8 CY8C4 ARM CORTEX M0 BLUETOOTH QFN; ki_description: 56-QFN, 48-MHz ARM® Cortex®-M0, 128KB Flash, 16kB SRAM, 4 UDB, NO CAP-SENSE, NO LCD DRIVE; ki_fp_filters: QFN*1EP*7x7mm*P0.4mm*; Footprint: Package_DFN_QFN:QFN-56-1EP_7x7mm_P0.4mm_EP5.6x5.6mm; Supplier: http://www.cypress.com/file/137466/download
footprint QFN-56-1EP_7x7mm_P0.4mm_EP5.6x5.6mm
pins: 1 VDDD (power), 2 XTAL32O/P6.0 (io), 3 XTAL32I/P6.1 (io), 4 XRES (in), 5 P4.0 (io), 6 P4.1 (io), 7 P5.0 (io), 8 P5.1 (io), 9 VSSD (power), 10 VDDR (power), 11 GANT1 (power), 12 ANT (out), 13 GANT2 (power), 14 VDDR (power), 15 VDDR (power), 16 XTAL24I (in), 17 XTAL24O (out), 18 VDDR (power), 19 P0.0 (io), 20 P0.1 (io), 21 P0.2 (io), 22 P0.3 (io), 23 VDDD (power), 24 P0.4 (io), 25 P0.5 (io), 26 P0.6 (io), 27 P0.7 (io), 28 P1.0 (io), 29 P1.1 (io), 30 P1.2 (io), 31 P1.3 (io), 32 P1.4 (io), 33 P1.5 (io), 34 P1.6 (io), 35 P1.7 (io), 36 VDDA (power), 37 P2.0 (io), 38 P2.1 (io), 39 P2.2 (io), 40 P2.3 (io), 41 P2.4 (io), 42 P2.5 (io), 43 P2.6 (io), 44 P2.7 (io), 45 VREF, 46 VDDA (power), 47 P3.0 (io), 48 P3.1 (io), 49 P3.2 (io), 50 P3.3 (io), 51 P3.4 (io), 52 P3.5 (io), 53 P3.6 (io), 54 P3.7 (io), 55 VSSA (power), 56 VCCD (power), 57 GND_EP (power)

## CY8C4247LQI-BL483
designator *  value CY8C4247LQI-BL483
ki_keywords: CYPRESS PSOC BLE CY8 CY8C4 ARM CORTEX M0 BLUETOOTH QFN; ki_description: 56-QFN, 48-MHz ARM® Cortex®-M0, 128KB Flash, 16kB SRAM, 4 UDB, CAP-SENSE W/O GESTURES, LCD DRIVE; ki_fp_filters: QFN*1EP*7x7mm*P0.4mm*; Footprint: Package_DFN_QFN:QFN-56-1EP_7x7mm_P0.4mm_EP5.6x5.6mm; Supplier: http://www.cypress.com/file/137466/download
footprint QFN-56-1EP_7x7mm_P0.4mm_EP5.6x5.6mm
pins: 1 VDDD (power), 2 XTAL32O/P6.0 (io), 3 XTAL32I/P6.1 (io), 4 XRES (in), 5 P4.0 (io), 6 P4.1 (io), 7 P5.0 (io), 8 P5.1 (io), 9 VSSD (power), 10 VDDR (power), 11 GANT1 (power), 12 ANT (out), 13 GANT2 (power), 14 VDDR (power), 15 VDDR (power), 16 XTAL24I (in), 17 XTAL24O (out), 18 VDDR (power), 19 P0.0 (io), 20 P0.1 (io), 21 P0.2 (io), 22 P0.3 (io), 23 VDDD (power), 24 P0.4 (io), 25 P0.5 (io), 26 P0.6 (io), 27 P0.7 (io), 28 P1.0 (io), 29 P1.1 (io), 30 P1.2 (io), 31 P1.3 (io), 32 P1.4 (io), 33 P1.5 (io), 34 P1.6 (io), 35 P1.7 (io), 36 VDDA (power), 37 P2.0 (io), 38 P2.1 (io), 39 P2.2 (io), 40 P2.3 (io), 41 P2.4 (io), 42 P2.5 (io), 43 P2.6 (io), 44 P2.7 (io), 45 VREF, 46 VDDA (power), 47 P3.0 (io), 48 P3.1 (io), 49 P3.2 (io), 50 P3.3 (io), 51 P3.4 (io), 52 P3.5 (io), 53 P3.6 (io), 54 P3.7 (io), 55 VSSA (power), 56 VCCD (power), 57 GND_EP (power)

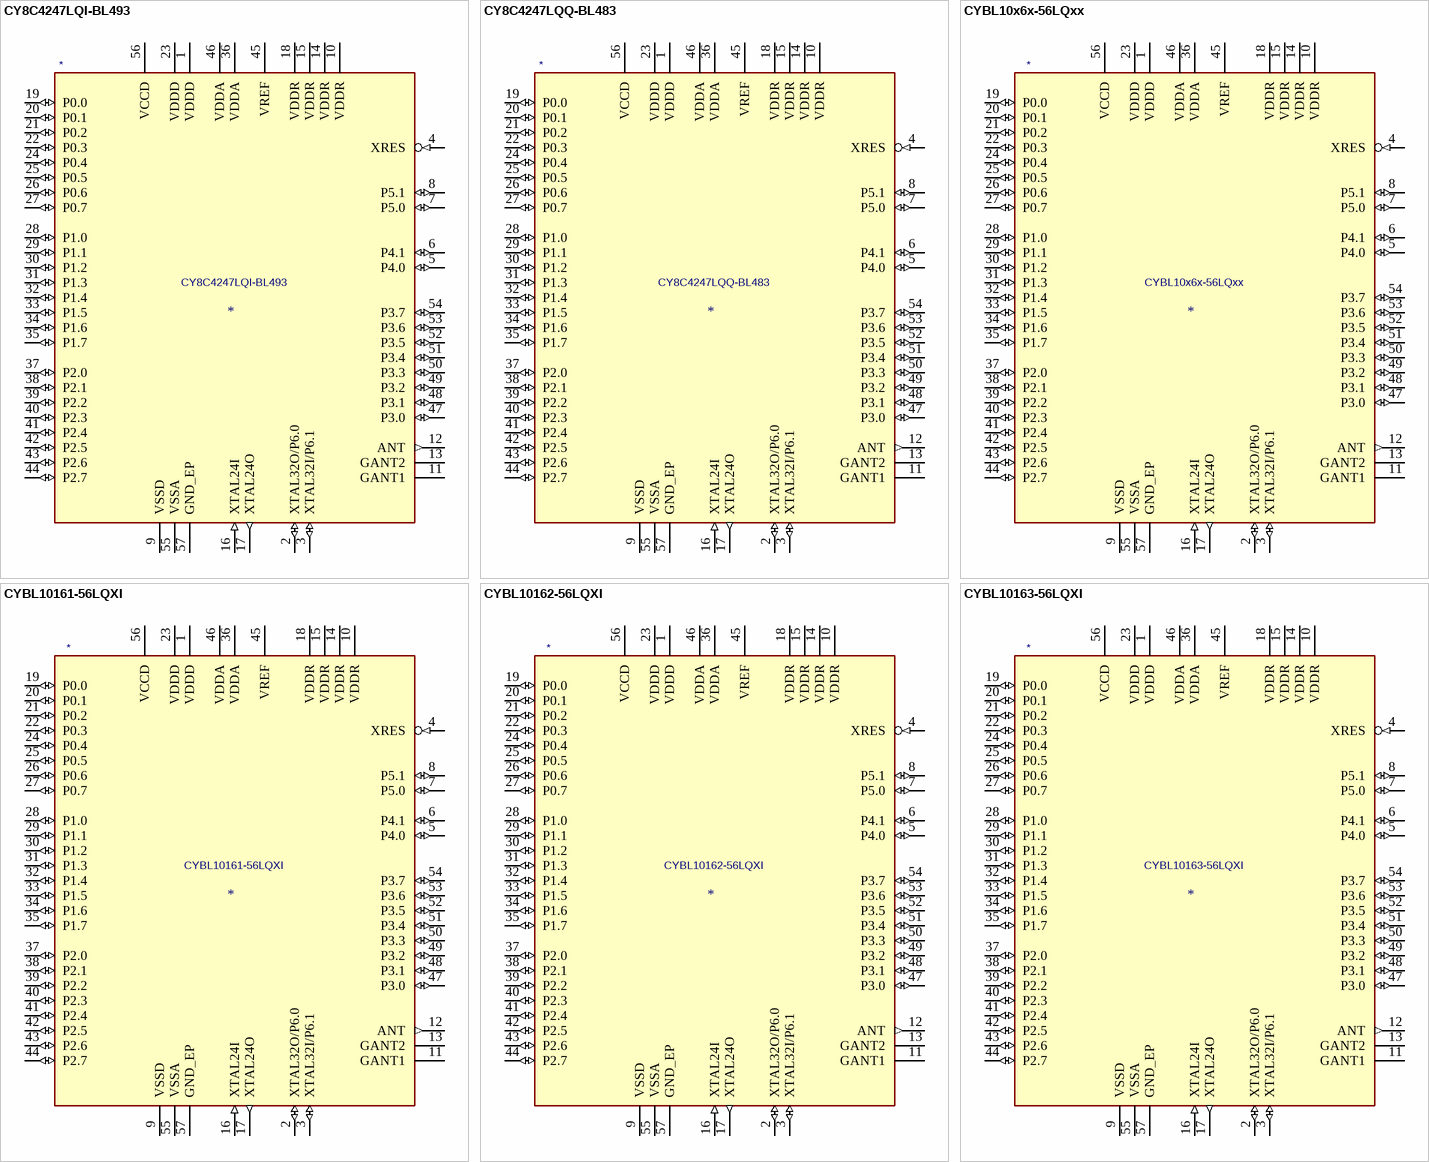
[diagram p3: symbols CY8C4247LQI-BL493 to CYBL10163-56LQXI]

## CY8C4247LQI-BL493
designator *  value CY8C4247LQI-BL493
ki_keywords: CYPRESS PSOC BLE CY8 CY8C4 ARM CORTEX M0 BLUETOOTH QFN; ki_description: 56-QFN, 48-MHz ARM® Cortex®-M0, 128KB Flash, 16kB SRAM, NO UDB, CAP-SENSE W/ GESTURE, LCD DRIVE; ki_fp_filters: QFN*1EP*7x7mm*P0.4mm*; Footprint: Package_DFN_QFN:QFN-56-1EP_7x7mm_P0.4mm_EP5.6x5.6mm; Supplier: http://www.cypress.com/file/137466/download
footprint QFN-56-1EP_7x7mm_P0.4mm_EP5.6x5.6mm
pins: 1 VDDD (power), 2 XTAL32O/P6.0 (io), 3 XTAL32I/P6.1 (io), 4 XRES (in), 5 P4.0 (io), 6 P4.1 (io), 7 P5.0 (io), 8 P5.1 (io), 9 VSSD (power), 10 VDDR (power), 11 GANT1 (power), 12 ANT (out), 13 GANT2 (power), 14 VDDR (power), 15 VDDR (power), 16 XTAL24I (in), 17 XTAL24O (out), 18 VDDR (power), 19 P0.0 (io), 20 P0.1 (io), 21 P0.2 (io), 22 P0.3 (io), 23 VDDD (power), 24 P0.4 (io), 25 P0.5 (io), 26 P0.6 (io), 27 P0.7 (io), 28 P1.0 (io), 29 P1.1 (io), 30 P1.2 (io), 31 P1.3 (io), 32 P1.4 (io), 33 P1.5 (io), 34 P1.6 (io), 35 P1.7 (io), 36 VDDA (power), 37 P2.0 (io), 38 P2.1 (io), 39 P2.2 (io), 40 P2.3 (io), 41 P2.4 (io), 42 P2.5 (io), 43 P2.6 (io), 44 P2.7 (io), 45 VREF, 46 VDDA (power), 47 P3.0 (io), 48 P3.1 (io), 49 P3.2 (io), 50 P3.3 (io), 51 P3.4 (io), 52 P3.5 (io), 53 P3.6 (io), 54 P3.7 (io), 55 VSSA (power), 56 VCCD (power), 57 GND_EP (power)

## CY8C4247LQQ-BL483
designator *  value CY8C4247LQQ-BL483
ki_keywords: CYPRESS PSOC BLE CY8 CY8C4 ARM CORTEX M0 BLUETOOTH QFN; ki_description: ENGR_SAMPLE,  56-QFN, 48-MHz ARM® Cortex®-M0, 128KB Flash, 16kB SRAM, NO UDB, CAP-SENSE W/ GESTURE, LCD DRIVE; ki_fp_filters: QFN*1EP*7x7mm*P0.4mm*; Footprint: Package_DFN_QFN:QFN-56-1EP_7x7mm_P0.4mm_EP5.6x5.6mm; Supplier: http://www.cypress.com/file/137466/download
footprint QFN-56-1EP_7x7mm_P0.4mm_EP5.6x5.6mm
pins: 1 VDDD (power), 2 XTAL32O/P6.0 (io), 3 XTAL32I/P6.1 (io), 4 XRES (in), 5 P4.0 (io), 6 P4.1 (io), 7 P5.0 (io), 8 P5.1 (io), 9 VSSD (power), 10 VDDR (power), 11 GANT1 (power), 12 ANT (out), 13 GANT2 (power), 14 VDDR (power), 15 VDDR (power), 16 XTAL24I (in), 17 XTAL24O (out), 18 VDDR (power), 19 P0.0 (io), 20 P0.1 (io), 21 P0.2 (io), 22 P0.3 (io), 23 VDDD (power), 24 P0.4 (io), 25 P0.5 (io), 26 P0.6 (io), 27 P0.7 (io), 28 P1.0 (io), 29 P1.1 (io), 30 P1.2 (io), 31 P1.3 (io), 32 P1.4 (io), 33 P1.5 (io), 34 P1.6 (io), 35 P1.7 (io), 36 VDDA (power), 37 P2.0 (io), 38 P2.1 (io), 39 P2.2 (io), 40 P2.3 (io), 41 P2.4 (io), 42 P2.5 (io), 43 P2.6 (io), 44 P2.7 (io), 45 VREF, 46 VDDA (power), 47 P3.0 (io), 48 P3.1 (io), 49 P3.2 (io), 50 P3.3 (io), 51 P3.4 (io), 52 P3.5 (io), 53 P3.6 (io), 54 P3.7 (io), 55 VSSA (power), 56 VCCD (power), 57 GND_EP (power)

## CYBL10x6x-56LQxx
designator *  value CYBL10x6x-56LQxx
ki_keywords: CYPRESS PROC BLE CY8BL ARM CORTEX M0 BLUETOOTH QFN; ki_description: Programmable Radio-on-Chip With Bluetooth Low Energy, 48-MHz ARM® Cortex®-M0 , 56-QFN; ki_fp_filters: QFN*1EP*7x7mm*P0.4mm*; Footprint: Package_DFN_QFN:QFN-56-1EP_7x7mm_P0.4mm_EP5.6x5.6mm; Supplier: http://www.cypress.com/documentation/datasheets/cybl10x6x-family-datasheet-programmable-radio-chip-bluetooth-low-energy
footprint QFN-56-1EP_7x7mm_P0.4mm_EP5.6x5.6mm
pins: 1 VDDD (power), 2 XTAL32O/P6.0 (io), 3 XTAL32I/P6.1 (io), 4 XRES (in), 5 P4.0 (io), 6 P4.1 (io), 7 P5.0 (io), 8 P5.1 (io), 9 VSSD (power), 10 VDDR (power), 11 GANT1 (power), 12 ANT (out), 13 GANT2 (power), 14 VDDR (power), 15 VDDR (power), 16 XTAL24I (in), 17 XTAL24O (out), 18 VDDR (power), 19 P0.0 (io), 20 P0.1 (io), 21 P0.2 (io), 22 P0.3 (io), 23 VDDD (power), 24 P0.4 (io), 25 P0.5 (io), 26 P0.6 (io), 27 P0.7 (io), 28 P1.0 (io), 29 P1.1 (io), 30 P1.2 (io), 31 P1.3 (io), 32 P1.4 (io), 33 P1.5 (io), 34 P1.6 (io), 35 P1.7 (io), 36 VDDA (power), 37 P2.0 (io), 38 P2.1 (io), 39 P2.2 (io), 40 P2.3 (io), 41 P2.4 (io), 42 P2.5 (io), 43 P2.6 (io), 44 P2.7 (io), 45 VREF, 46 VDDA (power), 47 P3.0 (io), 48 P3.1 (io), 49 P3.2 (io), 50 P3.3 (io), 51 P3.4 (io), 52 P3.5 (io), 53 P3.6 (io), 54 P3.7 (io), 55 VSSA (power), 56 VCCD (power), 57 GND_EP (power)

## CYBL10161-56LQXI
designator *  value CYBL10161-56LQXI
ki_keywords: CYPRESS PROC BLE CY8BL ARM CORTEX M0 BLUETOOTH QFN; ki_description: 56-QFN, 48-MHz ARM® Cortex®-M0, 128KB Flash, 16kB SRAM, BLE 4.1, NO CAP-SENSE, 1 SCB, 2 TCPWM, NO I2S, NO PWM , NO LCD, 1MSPS 12-BIT SAR; ki_fp_filters: QFN*1EP*7x7mm*P0.4mm*; Footprint: Package_DFN_QFN:QFN-56-1EP_7x7mm_P0.4mm_EP5.6x5.6mm; Supplier: http://www.cypress.com/documentation/datasheets/cybl10x6x-family-datasheet-programmable-radio-chip-bluetooth-low-energy
footprint QFN-56-1EP_7x7mm_P0.4mm_EP5.6x5.6mm
pins: 1 VDDD (power), 2 XTAL32O/P6.0 (io), 3 XTAL32I/P6.1 (io), 4 XRES (in), 5 P4.0 (io), 6 P4.1 (io), 7 P5.0 (io), 8 P5.1 (io), 9 VSSD (power), 10 VDDR (power), 11 GANT1 (power), 12 ANT (out), 13 GANT2 (power), 14 VDDR (power), 15 VDDR (power), 16 XTAL24I (in), 17 XTAL24O (out), 18 VDDR (power), 19 P0.0 (io), 20 P0.1 (io), 21 P0.2 (io), 22 P0.3 (io), 23 VDDD (power), 24 P0.4 (io), 25 P0.5 (io), 26 P0.6 (io), 27 P0.7 (io), 28 P1.0 (io), 29 P1.1 (io), 30 P1.2 (io), 31 P1.3 (io), 32 P1.4 (io), 33 P1.5 (io), 34 P1.6 (io), 35 P1.7 (io), 36 VDDA (power), 37 P2.0 (io), 38 P2.1 (io), 39 P2.2 (io), 40 P2.3 (io), 41 P2.4 (io), 42 P2.5 (io), 43 P2.6 (io), 44 P2.7 (io), 45 VREF, 46 VDDA (power), 47 P3.0 (io), 48 P3.1 (io), 49 P3.2 (io), 50 P3.3 (io), 51 P3.4 (io), 52 P3.5 (io), 53 P3.6 (io), 54 P3.7 (io), 55 VSSA (power), 56 VCCD (power), 57 GND_EP (power)

## CYBL10162-56LQXI
designator *  value CYBL10162-56LQXI
ki_keywords: CYPRESS PROC BLE CY8BL ARM CORTEX M0 BLUETOOTH QFN; ki_description: 56-QFN, 48-MHz ARM® Cortex®-M0, 128KB Flash, 16kB SRAM, BLE 4.1, NO CAP-SENSE, 2 SCB, 4 TCPWM, NO I2S, 4 PWM , NO LCD, 1MSPS 12-BIT SAR; ki_fp_filters: QFN*1EP*7x7mm*P0.4mm*; Footprint: Package_DFN_QFN:QFN-56-1EP_7x7mm_P0.4mm_EP5.6x5.6mm; Supplier: http://www.cypress.com/documentation/datasheets/cybl10x6x-family-datasheet-programmable-radio-chip-bluetooth-low-energy
footprint QFN-56-1EP_7x7mm_P0.4mm_EP5.6x5.6mm
pins: 1 VDDD (power), 2 XTAL32O/P6.0 (io), 3 XTAL32I/P6.1 (io), 4 XRES (in), 5 P4.0 (io), 6 P4.1 (io), 7 P5.0 (io), 8 P5.1 (io), 9 VSSD (power), 10 VDDR (power), 11 GANT1 (power), 12 ANT (out), 13 GANT2 (power), 14 VDDR (power), 15 VDDR (power), 16 XTAL24I (in), 17 XTAL24O (out), 18 VDDR (power), 19 P0.0 (io), 20 P0.1 (io), 21 P0.2 (io), 22 P0.3 (io), 23 VDDD (power), 24 P0.4 (io), 25 P0.5 (io), 26 P0.6 (io), 27 P0.7 (io), 28 P1.0 (io), 29 P1.1 (io), 30 P1.2 (io), 31 P1.3 (io), 32 P1.4 (io), 33 P1.5 (io), 34 P1.6 (io), 35 P1.7 (io), 36 VDDA (power), 37 P2.0 (io), 38 P2.1 (io), 39 P2.2 (io), 40 P2.3 (io), 41 P2.4 (io), 42 P2.5 (io), 43 P2.6 (io), 44 P2.7 (io), 45 VREF, 46 VDDA (power), 47 P3.0 (io), 48 P3.1 (io), 49 P3.2 (io), 50 P3.3 (io), 51 P3.4 (io), 52 P3.5 (io), 53 P3.6 (io), 54 P3.7 (io), 55 VSSA (power), 56 VCCD (power), 57 GND_EP (power)

## CYBL10163-56LQXI
designator *  value CYBL10163-56LQXI
ki_keywords: CYPRESS PROC BLE CY8BL ARM CORTEX M0 BLUETOOTH QFN; ki_description: 56-QFN, 48-MHz ARM® Cortex®-M0, 128KB Flash, 16kB SRAM, BLE 4.1, NO CAP-SENSE, 2 SCB, 4 TCPWM, 1 I2S, NO PWM , NO LCD, 1MSPS 12-BIT SAR; ki_fp_filters: QFN*1EP*7x7mm*P0.4mm*; Footprint: Package_DFN_QFN:QFN-56-1EP_7x7mm_P0.4mm_EP5.6x5.6mm; Supplier: http://www.cypress.com/documentation/datasheets/cybl10x6x-family-datasheet-programmable-radio-chip-bluetooth-low-energy
footprint QFN-56-1EP_7x7mm_P0.4mm_EP5.6x5.6mm
pins: 1 VDDD (power), 2 XTAL32O/P6.0 (io), 3 XTAL32I/P6.1 (io), 4 XRES (in), 5 P4.0 (io), 6 P4.1 (io), 7 P5.0 (io), 8 P5.1 (io), 9 VSSD (power), 10 VDDR (power), 11 GANT1 (power), 12 ANT (out), 13 GANT2 (power), 14 VDDR (power), 15 VDDR (power), 16 XTAL24I (in), 17 XTAL24O (out), 18 VDDR (power), 19 P0.0 (io), 20 P0.1 (io), 21 P0.2 (io), 22 P0.3 (io), 23 VDDD (power), 24 P0.4 (io), 25 P0.5 (io), 26 P0.6 (io), 27 P0.7 (io), 28 P1.0 (io), 29 P1.1 (io), 30 P1.2 (io), 31 P1.3 (io), 32 P1.4 (io), 33 P1.5 (io), 34 P1.6 (io), 35 P1.7 (io), 36 VDDA (power), 37 P2.0 (io), 38 P2.1 (io), 39 P2.2 (io), 40 P2.3 (io), 41 P2.4 (io), 42 P2.5 (io), 43 P2.6 (io), 44 P2.7 (io), 45 VREF, 46 VDDA (power), 47 P3.0 (io), 48 P3.1 (io), 49 P3.2 (io), 50 P3.3 (io), 51 P3.4 (io), 52 P3.5 (io), 53 P3.6 (io), 54 P3.7 (io), 55 VSSA (power), 56 VCCD (power), 57 GND_EP (power)

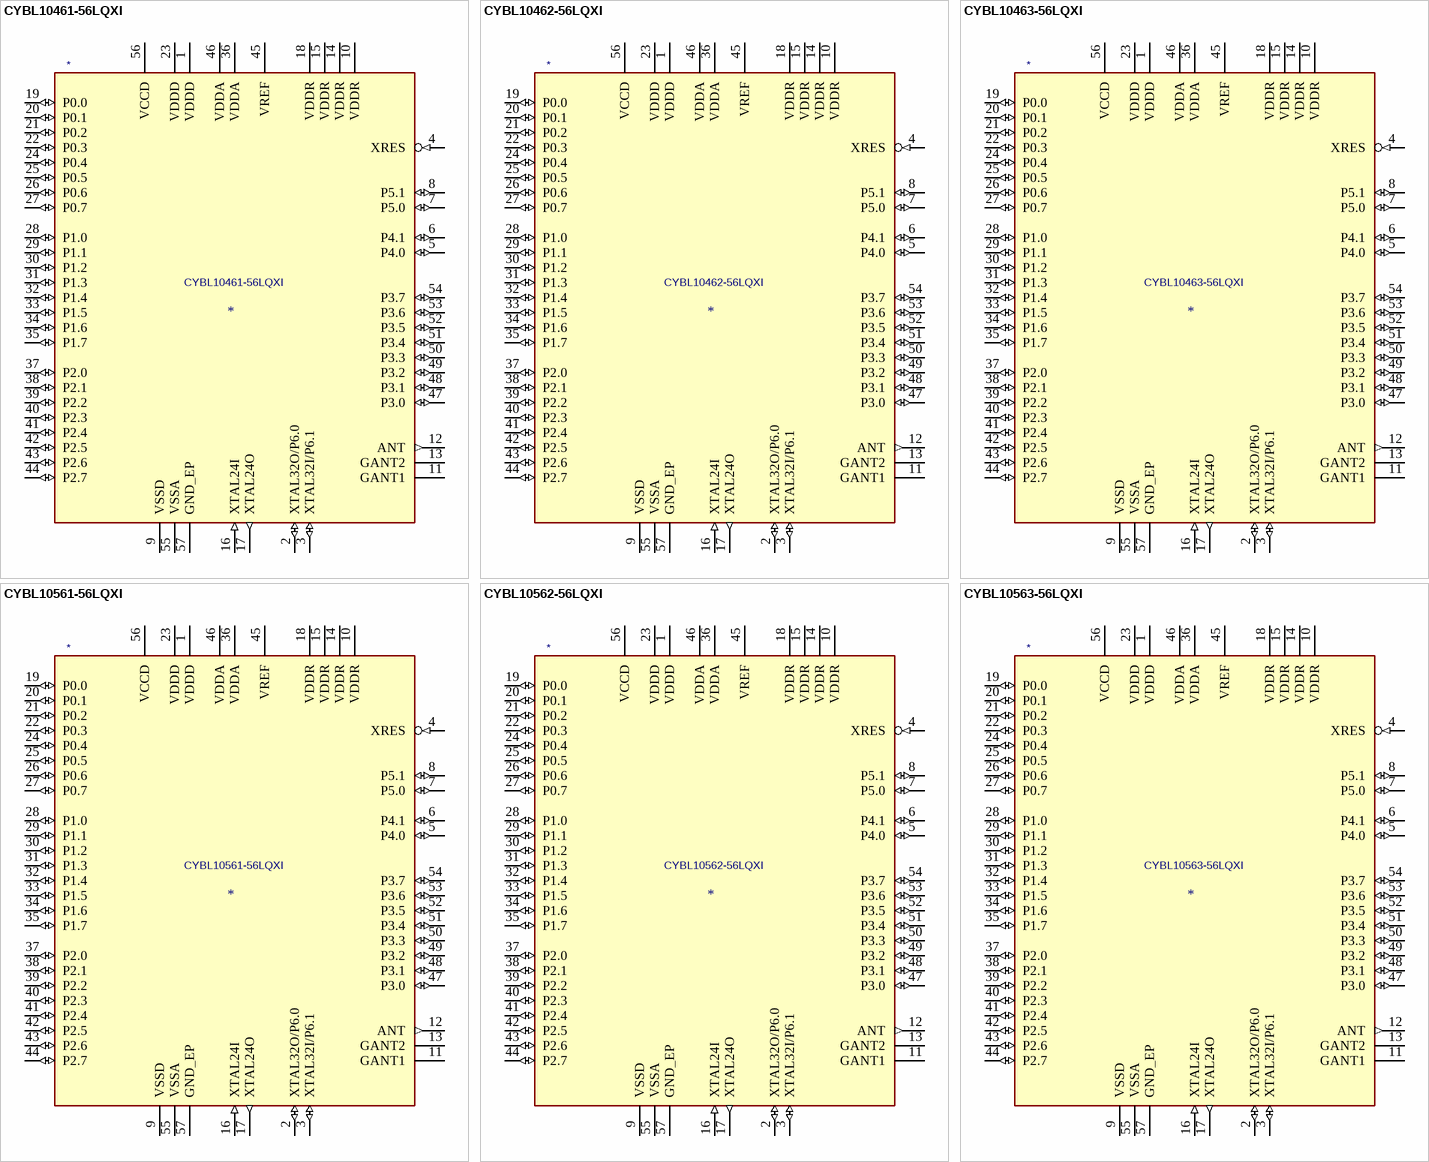
[diagram p4: symbols CYBL10461-56LQXI to CYBL10563-56LQXI]

## CYBL10461-56LQXI
designator *  value CYBL10461-56LQXI
ki_keywords: CYPRESS PROC BLE CY8BL ARM CORTEX M0 BLUETOOTH QFN; ki_description: 56-QFN, 48-MHz ARM® Cortex®-M0, 128KB Flash, 16kB SRAM, BLE 4.1, CAP-SENSE, 2 SCB, 4 TCPWM, NO I2S, NO PWM , NO LCD, 1MSPS 12-BIT SAR; ki_fp_filters: QFN*1EP*7x7mm*P0.4mm*; Footprint: Package_DFN_QFN:QFN-56-1EP_7x7mm_P0.4mm_EP5.6x5.6mm; Supplier: http://www.cypress.com/documentation/datasheets/cybl10x6x-family-datasheet-programmable-radio-chip-bluetooth-low-energy
footprint QFN-56-1EP_7x7mm_P0.4mm_EP5.6x5.6mm
pins: 1 VDDD (power), 2 XTAL32O/P6.0 (io), 3 XTAL32I/P6.1 (io), 4 XRES (in), 5 P4.0 (io), 6 P4.1 (io), 7 P5.0 (io), 8 P5.1 (io), 9 VSSD (power), 10 VDDR (power), 11 GANT1 (power), 12 ANT (out), 13 GANT2 (power), 14 VDDR (power), 15 VDDR (power), 16 XTAL24I (in), 17 XTAL24O (out), 18 VDDR (power), 19 P0.0 (io), 20 P0.1 (io), 21 P0.2 (io), 22 P0.3 (io), 23 VDDD (power), 24 P0.4 (io), 25 P0.5 (io), 26 P0.6 (io), 27 P0.7 (io), 28 P1.0 (io), 29 P1.1 (io), 30 P1.2 (io), 31 P1.3 (io), 32 P1.4 (io), 33 P1.5 (io), 34 P1.6 (io), 35 P1.7 (io), 36 VDDA (power), 37 P2.0 (io), 38 P2.1 (io), 39 P2.2 (io), 40 P2.3 (io), 41 P2.4 (io), 42 P2.5 (io), 43 P2.6 (io), 44 P2.7 (io), 45 VREF, 46 VDDA (power), 47 P3.0 (io), 48 P3.1 (io), 49 P3.2 (io), 50 P3.3 (io), 51 P3.4 (io), 52 P3.5 (io), 53 P3.6 (io), 54 P3.7 (io), 55 VSSA (power), 56 VCCD (power), 57 GND_EP (power)

## CYBL10462-56LQXI
designator *  value CYBL10462-56LQXI
ki_keywords: CYPRESS PROC BLE CY8BL ARM CORTEX M0 BLUETOOTH QFN; ki_description: 56-QFN, 48-MHz ARM® Cortex®-M0, 128KB Flash, 16kB SRAM, BLE 4.1, CAP-SENSE, 2 SCB, 4 TCPWM, 1 I2S, NO PWM , NO LCD, 1MSPS 12-BIT SAR; ki_fp_filters: QFN*1EP*7x7mm*P0.4mm*; Footprint: Package_DFN_QFN:QFN-56-1EP_7x7mm_P0.4mm_EP5.6x5.6mm; Supplier: http://www.cypress.com/documentation/datasheets/cybl10x6x-family-datasheet-programmable-radio-chip-bluetooth-low-energy
footprint QFN-56-1EP_7x7mm_P0.4mm_EP5.6x5.6mm
pins: 1 VDDD (power), 2 XTAL32O/P6.0 (io), 3 XTAL32I/P6.1 (io), 4 XRES (in), 5 P4.0 (io), 6 P4.1 (io), 7 P5.0 (io), 8 P5.1 (io), 9 VSSD (power), 10 VDDR (power), 11 GANT1 (power), 12 ANT (out), 13 GANT2 (power), 14 VDDR (power), 15 VDDR (power), 16 XTAL24I (in), 17 XTAL24O (out), 18 VDDR (power), 19 P0.0 (io), 20 P0.1 (io), 21 P0.2 (io), 22 P0.3 (io), 23 VDDD (power), 24 P0.4 (io), 25 P0.5 (io), 26 P0.6 (io), 27 P0.7 (io), 28 P1.0 (io), 29 P1.1 (io), 30 P1.2 (io), 31 P1.3 (io), 32 P1.4 (io), 33 P1.5 (io), 34 P1.6 (io), 35 P1.7 (io), 36 VDDA (power), 37 P2.0 (io), 38 P2.1 (io), 39 P2.2 (io), 40 P2.3 (io), 41 P2.4 (io), 42 P2.5 (io), 43 P2.6 (io), 44 P2.7 (io), 45 VREF, 46 VDDA (power), 47 P3.0 (io), 48 P3.1 (io), 49 P3.2 (io), 50 P3.3 (io), 51 P3.4 (io), 52 P3.5 (io), 53 P3.6 (io), 54 P3.7 (io), 55 VSSA (power), 56 VCCD (power), 57 GND_EP (power)

## CYBL10463-56LQXI
designator *  value CYBL10463-56LQXI
ki_keywords: CYPRESS PROC BLE CY8BL ARM CORTEX M0 BLUETOOTH QFN; ki_description: 56-QFN, 48-MHz ARM® Cortex®-M0, 128KB Flash, 16kB SRAM, BLE 4.1, CAP-SENSE, 2 SCB, 4 TCPWM, NO I2S, NO PWM , LCD, 1MSPS 12-BIT SAR; ki_fp_filters: QFN*1EP*7x7mm*P0.4mm*; Footprint: Package_DFN_QFN:QFN-56-1EP_7x7mm_P0.4mm_EP5.6x5.6mm; Supplier: http://www.cypress.com/documentation/datasheets/cybl10x6x-family-datasheet-programmable-radio-chip-bluetooth-low-energy
footprint QFN-56-1EP_7x7mm_P0.4mm_EP5.6x5.6mm
pins: 1 VDDD (power), 2 XTAL32O/P6.0 (io), 3 XTAL32I/P6.1 (io), 4 XRES (in), 5 P4.0 (io), 6 P4.1 (io), 7 P5.0 (io), 8 P5.1 (io), 9 VSSD (power), 10 VDDR (power), 11 GANT1 (power), 12 ANT (out), 13 GANT2 (power), 14 VDDR (power), 15 VDDR (power), 16 XTAL24I (in), 17 XTAL24O (out), 18 VDDR (power), 19 P0.0 (io), 20 P0.1 (io), 21 P0.2 (io), 22 P0.3 (io), 23 VDDD (power), 24 P0.4 (io), 25 P0.5 (io), 26 P0.6 (io), 27 P0.7 (io), 28 P1.0 (io), 29 P1.1 (io), 30 P1.2 (io), 31 P1.3 (io), 32 P1.4 (io), 33 P1.5 (io), 34 P1.6 (io), 35 P1.7 (io), 36 VDDA (power), 37 P2.0 (io), 38 P2.1 (io), 39 P2.2 (io), 40 P2.3 (io), 41 P2.4 (io), 42 P2.5 (io), 43 P2.6 (io), 44 P2.7 (io), 45 VREF, 46 VDDA (power), 47 P3.0 (io), 48 P3.1 (io), 49 P3.2 (io), 50 P3.3 (io), 51 P3.4 (io), 52 P3.5 (io), 53 P3.6 (io), 54 P3.7 (io), 55 VSSA (power), 56 VCCD (power), 57 GND_EP (power)

## CYBL10561-56LQXI
designator *  value CYBL10561-56LQXI
ki_keywords: CYPRESS PROC BLE CY8BL ARM CORTEX M0 BLUETOOTH QFN; ki_description: 56-QFN, 48-MHz ARM® Cortex®-M0, 128KB Flash, 16kB SRAM, BLE 4.1, CAP-SENSE W/ GESTURES, 2 SCB, 4 TCPWM, NO I2S, NO PWM , NO LCD, 1MSPS 12-BIT SAR; ki_fp_filters: QFN*1EP*7x7mm*P0.4mm*; Footprint: Package_DFN_QFN:QFN-56-1EP_7x7mm_P0.4mm_EP5.6x5.6mm; Supplier: http://www.cypress.com/documentation/datasheets/cybl10x6x-family-datasheet-programmable-radio-chip-bluetooth-low-energy
footprint QFN-56-1EP_7x7mm_P0.4mm_EP5.6x5.6mm
pins: 1 VDDD (power), 2 XTAL32O/P6.0 (io), 3 XTAL32I/P6.1 (io), 4 XRES (in), 5 P4.0 (io), 6 P4.1 (io), 7 P5.0 (io), 8 P5.1 (io), 9 VSSD (power), 10 VDDR (power), 11 GANT1 (power), 12 ANT (out), 13 GANT2 (power), 14 VDDR (power), 15 VDDR (power), 16 XTAL24I (in), 17 XTAL24O (out), 18 VDDR (power), 19 P0.0 (io), 20 P0.1 (io), 21 P0.2 (io), 22 P0.3 (io), 23 VDDD (power), 24 P0.4 (io), 25 P0.5 (io), 26 P0.6 (io), 27 P0.7 (io), 28 P1.0 (io), 29 P1.1 (io), 30 P1.2 (io), 31 P1.3 (io), 32 P1.4 (io), 33 P1.5 (io), 34 P1.6 (io), 35 P1.7 (io), 36 VDDA (power), 37 P2.0 (io), 38 P2.1 (io), 39 P2.2 (io), 40 P2.3 (io), 41 P2.4 (io), 42 P2.5 (io), 43 P2.6 (io), 44 P2.7 (io), 45 VREF, 46 VDDA (power), 47 P3.0 (io), 48 P3.1 (io), 49 P3.2 (io), 50 P3.3 (io), 51 P3.4 (io), 52 P3.5 (io), 53 P3.6 (io), 54 P3.7 (io), 55 VSSA (power), 56 VCCD (power), 57 GND_EP (power)

## CYBL10562-56LQXI
designator *  value CYBL10562-56LQXI
ki_keywords: CYPRESS PROC BLE CY8BL ARM CORTEX M0 BLUETOOTH QFN; ki_description: 56-QFN, 48-MHz ARM® Cortex®-M0, 128KB Flash, 16kB SRAM, BLE 4.1, CAP-SENSE W/ GESTURES, 2 SCB, 4 TCPWM, I2S, 1 PWM , NO LCD, 1MSPS 12-BIT SAR; ki_fp_filters: QFN*1EP*7x7mm*P0.4mm*; Footprint: Package_DFN_QFN:QFN-56-1EP_7x7mm_P0.4mm_EP5.6x5.6mm; Supplier: http://www.cypress.com/documentation/datasheets/cybl10x6x-family-datasheet-programmable-radio-chip-bluetooth-low-energy
footprint QFN-56-1EP_7x7mm_P0.4mm_EP5.6x5.6mm
pins: 1 VDDD (power), 2 XTAL32O/P6.0 (io), 3 XTAL32I/P6.1 (io), 4 XRES (in), 5 P4.0 (io), 6 P4.1 (io), 7 P5.0 (io), 8 P5.1 (io), 9 VSSD (power), 10 VDDR (power), 11 GANT1 (power), 12 ANT (out), 13 GANT2 (power), 14 VDDR (power), 15 VDDR (power), 16 XTAL24I (in), 17 XTAL24O (out), 18 VDDR (power), 19 P0.0 (io), 20 P0.1 (io), 21 P0.2 (io), 22 P0.3 (io), 23 VDDD (power), 24 P0.4 (io), 25 P0.5 (io), 26 P0.6 (io), 27 P0.7 (io), 28 P1.0 (io), 29 P1.1 (io), 30 P1.2 (io), 31 P1.3 (io), 32 P1.4 (io), 33 P1.5 (io), 34 P1.6 (io), 35 P1.7 (io), 36 VDDA (power), 37 P2.0 (io), 38 P2.1 (io), 39 P2.2 (io), 40 P2.3 (io), 41 P2.4 (io), 42 P2.5 (io), 43 P2.6 (io), 44 P2.7 (io), 45 VREF, 46 VDDA (power), 47 P3.0 (io), 48 P3.1 (io), 49 P3.2 (io), 50 P3.3 (io), 51 P3.4 (io), 52 P3.5 (io), 53 P3.6 (io), 54 P3.7 (io), 55 VSSA (power), 56 VCCD (power), 57 GND_EP (power)

## CYBL10563-56LQXI
designator *  value CYBL10563-56LQXI
ki_keywords: CYPRESS PROC BLE CY8BL ARM CORTEX M0 BLUETOOTH QFN; ki_description: 56-QFN, 48-MHz ARM® Cortex®-M0, 128KB Flash, 16kB SRAM, BLE 4.1, CAP-SENSE W/ GESTURES, 2 SCB, 4 TCPWM, I2S, 1 PWM , LCD, 1MSPS 12-BIT SAR; ki_fp_filters: QFN*1EP*7x7mm*P0.4mm*; Footprint: Package_DFN_QFN:QFN-56-1EP_7x7mm_P0.4mm_EP5.6x5.6mm; Supplier: http://www.cypress.com/documentation/datasheets/cybl10x6x-family-datasheet-programmable-radio-chip-bluetooth-low-energy
footprint QFN-56-1EP_7x7mm_P0.4mm_EP5.6x5.6mm
pins: 1 VDDD (power), 2 XTAL32O/P6.0 (io), 3 XTAL32I/P6.1 (io), 4 XRES (in), 5 P4.0 (io), 6 P4.1 (io), 7 P5.0 (io), 8 P5.1 (io), 9 VSSD (power), 10 VDDR (power), 11 GANT1 (power), 12 ANT (out), 13 GANT2 (power), 14 VDDR (power), 15 VDDR (power), 16 XTAL24I (in), 17 XTAL24O (out), 18 VDDR (power), 19 P0.0 (io), 20 P0.1 (io), 21 P0.2 (io), 22 P0.3 (io), 23 VDDD (power), 24 P0.4 (io), 25 P0.5 (io), 26 P0.6 (io), 27 P0.7 (io), 28 P1.0 (io), 29 P1.1 (io), 30 P1.2 (io), 31 P1.3 (io), 32 P1.4 (io), 33 P1.5 (io), 34 P1.6 (io), 35 P1.7 (io), 36 VDDA (power), 37 P2.0 (io), 38 P2.1 (io), 39 P2.2 (io), 40 P2.3 (io), 41 P2.4 (io), 42 P2.5 (io), 43 P2.6 (io), 44 P2.7 (io), 45 VREF, 46 VDDA (power), 47 P3.0 (io), 48 P3.1 (io), 49 P3.2 (io), 50 P3.3 (io), 51 P3.4 (io), 52 P3.5 (io), 53 P3.6 (io), 54 P3.7 (io), 55 VSSA (power), 56 VCCD (power), 57 GND_EP (power)

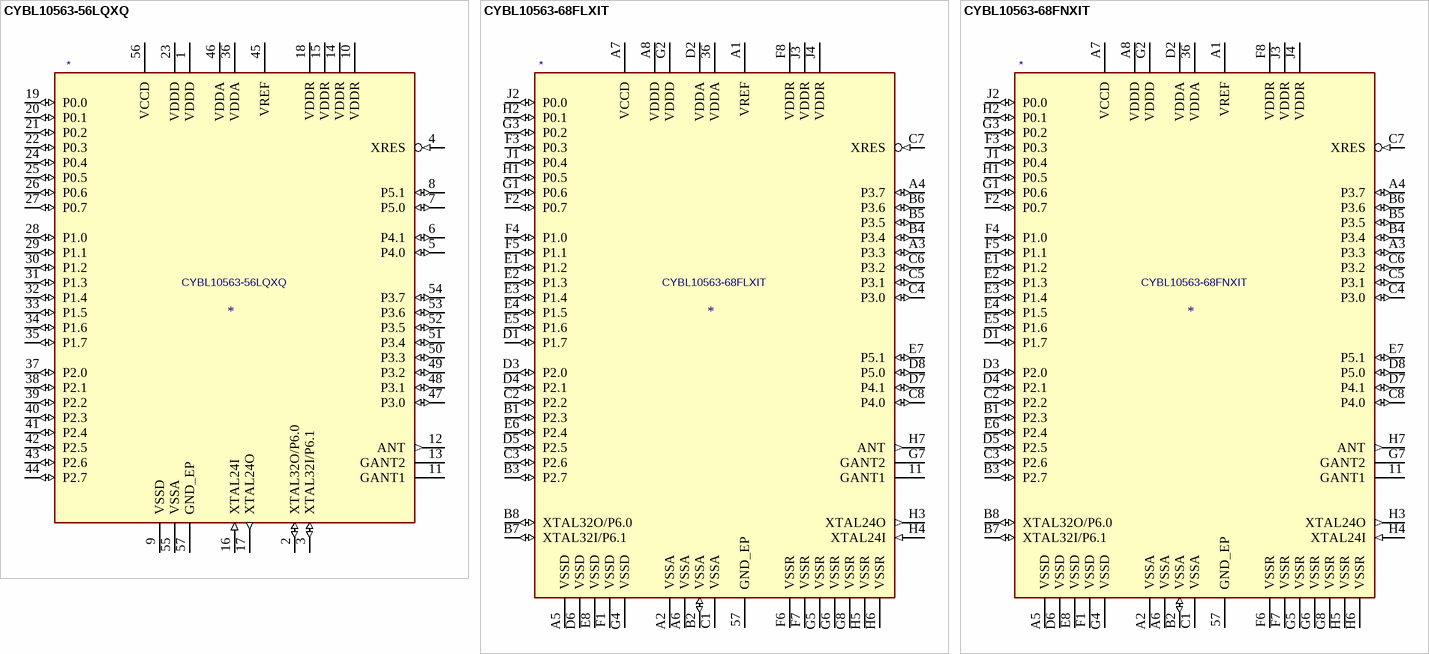
[diagram p5: symbols CYBL10563-56LQXQ to CYBL10563-68FNXIT]

## CYBL10563-56LQXQ
designator *  value CYBL10563-56LQXQ
ki_keywords: CYPRESS PROC BLE CY8BL ARM CORTEX M0 BLUETOOTH QFN; ki_description: 56-QFN, 48-MHz ARM® Cortex®-M0, 128KB Flash, 16kB SRAM, BLE 4.1, CAP-SENSE W/ GESTURES, 2 SCB, 4 TCPWM, I2S, 1 PWM , LCD, 1MSPS 12-BIT SAR; ki_fp_filters: QFN*1EP*7x7mm*P0.4mm*; Footprint: Package_DFN_QFN:QFN-56-1EP_7x7mm_P0.4mm_EP5.6x5.6mm; Supplier: http://www.cypress.com/documentation/datasheets/cybl10x6x-family-datasheet-programmable-radio-chip-bluetooth-low-energy
footprint QFN-56-1EP_7x7mm_P0.4mm_EP5.6x5.6mm
pins: 1 VDDD (power), 2 XTAL32O/P6.0 (io), 3 XTAL32I/P6.1 (io), 4 XRES (in), 5 P4.0 (io), 6 P4.1 (io), 7 P5.0 (io), 8 P5.1 (io), 9 VSSD (power), 10 VDDR (power), 11 GANT1 (power), 12 ANT (out), 13 GANT2 (power), 14 VDDR (power), 15 VDDR (power), 16 XTAL24I (in), 17 XTAL24O (out), 18 VDDR (power), 19 P0.0 (io), 20 P0.1 (io), 21 P0.2 (io), 22 P0.3 (io), 23 VDDD (power), 24 P0.4 (io), 25 P0.5 (io), 26 P0.6 (io), 27 P0.7 (io), 28 P1.0 (io), 29 P1.1 (io), 30 P1.2 (io), 31 P1.3 (io), 32 P1.4 (io), 33 P1.5 (io), 34 P1.6 (io), 35 P1.7 (io), 36 VDDA (power), 37 P2.0 (io), 38 P2.1 (io), 39 P2.2 (io), 40 P2.3 (io), 41 P2.4 (io), 42 P2.5 (io), 43 P2.6 (io), 44 P2.7 (io), 45 VREF, 46 VDDA (power), 47 P3.0 (io), 48 P3.1 (io), 49 P3.2 (io), 50 P3.3 (io), 51 P3.4 (io), 52 P3.5 (io), 53 P3.6 (io), 54 P3.7 (io), 55 VSSA (power), 56 VCCD (power), 57 GND_EP (power)

## CYBL10563-68FLXIT
designator *  value CYBL10563-68FLXIT
ki_keywords: CYPRESS PROC BLE CY8BL ARM CORTEX M0 BLUETOOTH WLCSP; ki_description: 68-WLCSP, 48-MHz ARM® Cortex®-M0, 128KB Flash, 16kB SRAM, BLE 4.1, CAP-SENSE W/ GESTURES, 2 SCB, 4 TCPWM, I2S, 1 PWM , LCD, 1MSPS 12-BIT SAR; ki_fp_filters: WLCSP*; Supplier: http://www.cypress.com/documentation/datasheets/cybl10x6x-family-datasheet-programmable-radio-chip-bluetooth-low-energy
pins: 11 GANT1 (power), 36 VDDA (power), 57 GND_EP (power), A1 VREF, A2 VSSA (power), A3 P3.3 (io), A4 P3.7 (io), A5 VSSD (power), A6 VSSA (power), A7 VCCD (power), A8 VDDD (power), B1 P2.3 (io), B2 VSSA (io), B3 P2.7 (io), B4 P3.4 (io), B5 P3.5 (io), B6 P3.6 (io), B7 XTAL32I/P6.1 (io), B8 XTAL32O/P6.0 (io), C1 VSSA (power), C2 P2.2 (io), C3 P2.6 (io), C4 P3.0 (io), C5 P3.1 (io), C6 P3.2 (io), C7 XRES (in), C8 P4.0 (io), D1 P1.7 (io), D2 VDDA (power), D3 P2.0 (io), D4 P2.1 (io), D5 P2.5 (io), D6 VSSD (power), D7 P4.1 (io), D8 P5.0 (io), E1 P1.2 (io), E2 P1.3 (io), E3 P1.4 (io), E4 P1.5 (io), E5 P1.6 (io), E6 P2.4 (io), E7 P5.1 (io), E8 VSSD (power), F1 VSSD (power), F2 P0.7 (io), F3 P0.3 (io), F4 P1.0 (io), F5 P1.1 (io), F6 VSSR (power), F7 VSSR (power), F8 VDDR (power), G1 P0.6 (io), G2 VDDD (power), G3 P0.2 (io), G4 VSSD (power), G5 VSSR (power), G6 VSSR (power), G7 GANT2 (power), G8 VSSR (power), H1 P0.5 (io), H2 P0.1 (io), H3 XTAL24O (out), H4 XTAL24I (in), H5 VSSR (power), H6 VSSR (power), H7 ANT (out), J1 P0.4 (io), J2 P0.0 (io), J3 VDDR (power), J4 VDDR (power), J7 NC (in) hidden

## CYBL10563-68FNXIT
designator *  value CYBL10563-68FNXIT
ki_keywords: CYPRESS PROC BLE CY8BL ARM CORTEX M0 BLUETOOTH WLCSP; ki_description: 68-WLCSP, 48-MHz ARM® Cortex®-M0, 128KB Flash, 16kB SRAM, BLE 4.1, CAP-SENSE W/ GESTURES, 2 SCB, 4 TCPWM, I2S, 1 PWM , LCD, 1MSPS 12-BIT SAR; ki_fp_filters: WLCSP*; Supplier: http://www.cypress.com/documentation/datasheets/cybl10x6x-family-datasheet-programmable-radio-chip-bluetooth-low-energy
pins: 11 GANT1 (power), 36 VDDA (power), 57 GND_EP (power), A1 VREF, A2 VSSA (power), A3 P3.3 (io), A4 P3.7 (io), A5 VSSD (power), A6 VSSA (power), A7 VCCD (power), A8 VDDD (power), B1 P2.3 (io), B2 VSSA (io), B3 P2.7 (io), B4 P3.4 (io), B5 P3.5 (io), B6 P3.6 (io), B7 XTAL32I/P6.1 (io), B8 XTAL32O/P6.0 (io), C1 VSSA (power), C2 P2.2 (io), C3 P2.6 (io), C4 P3.0 (io), C5 P3.1 (io), C6 P3.2 (io), C7 XRES (in), C8 P4.0 (io), D1 P1.7 (io), D2 VDDA (power), D3 P2.0 (io), D4 P2.1 (io), D5 P2.5 (io), D6 VSSD (power), D7 P4.1 (io), D8 P5.0 (io), E1 P1.2 (io), E2 P1.3 (io), E3 P1.4 (io), E4 P1.5 (io), E5 P1.6 (io), E6 P2.4 (io), E7 P5.1 (io), E8 VSSD (power), F1 VSSD (power), F2 P0.7 (io), F3 P0.3 (io), F4 P1.0 (io), F5 P1.1 (io), F6 VSSR (power), F7 VSSR (power), F8 VDDR (power), G1 P0.6 (io), G2 VDDD (power), G3 P0.2 (io), G4 VSSD (power), G5 VSSR (power), G6 VSSR (power), G7 GANT2 (power), G8 VSSR (power), H1 P0.5 (io), H2 P0.1 (io), H3 XTAL24O (out), H4 XTAL24I (in), H5 VSSR (power), H6 VSSR (power), H7 ANT (out), J1 P0.4 (io), J2 P0.0 (io), J3 VDDR (power), J4 VDDR (power), J7 NC (in) hidden